# Altium integrated library TI Microcontroller 32-Bit ARM.IntLib: 163 symbols (part 4 of 10)
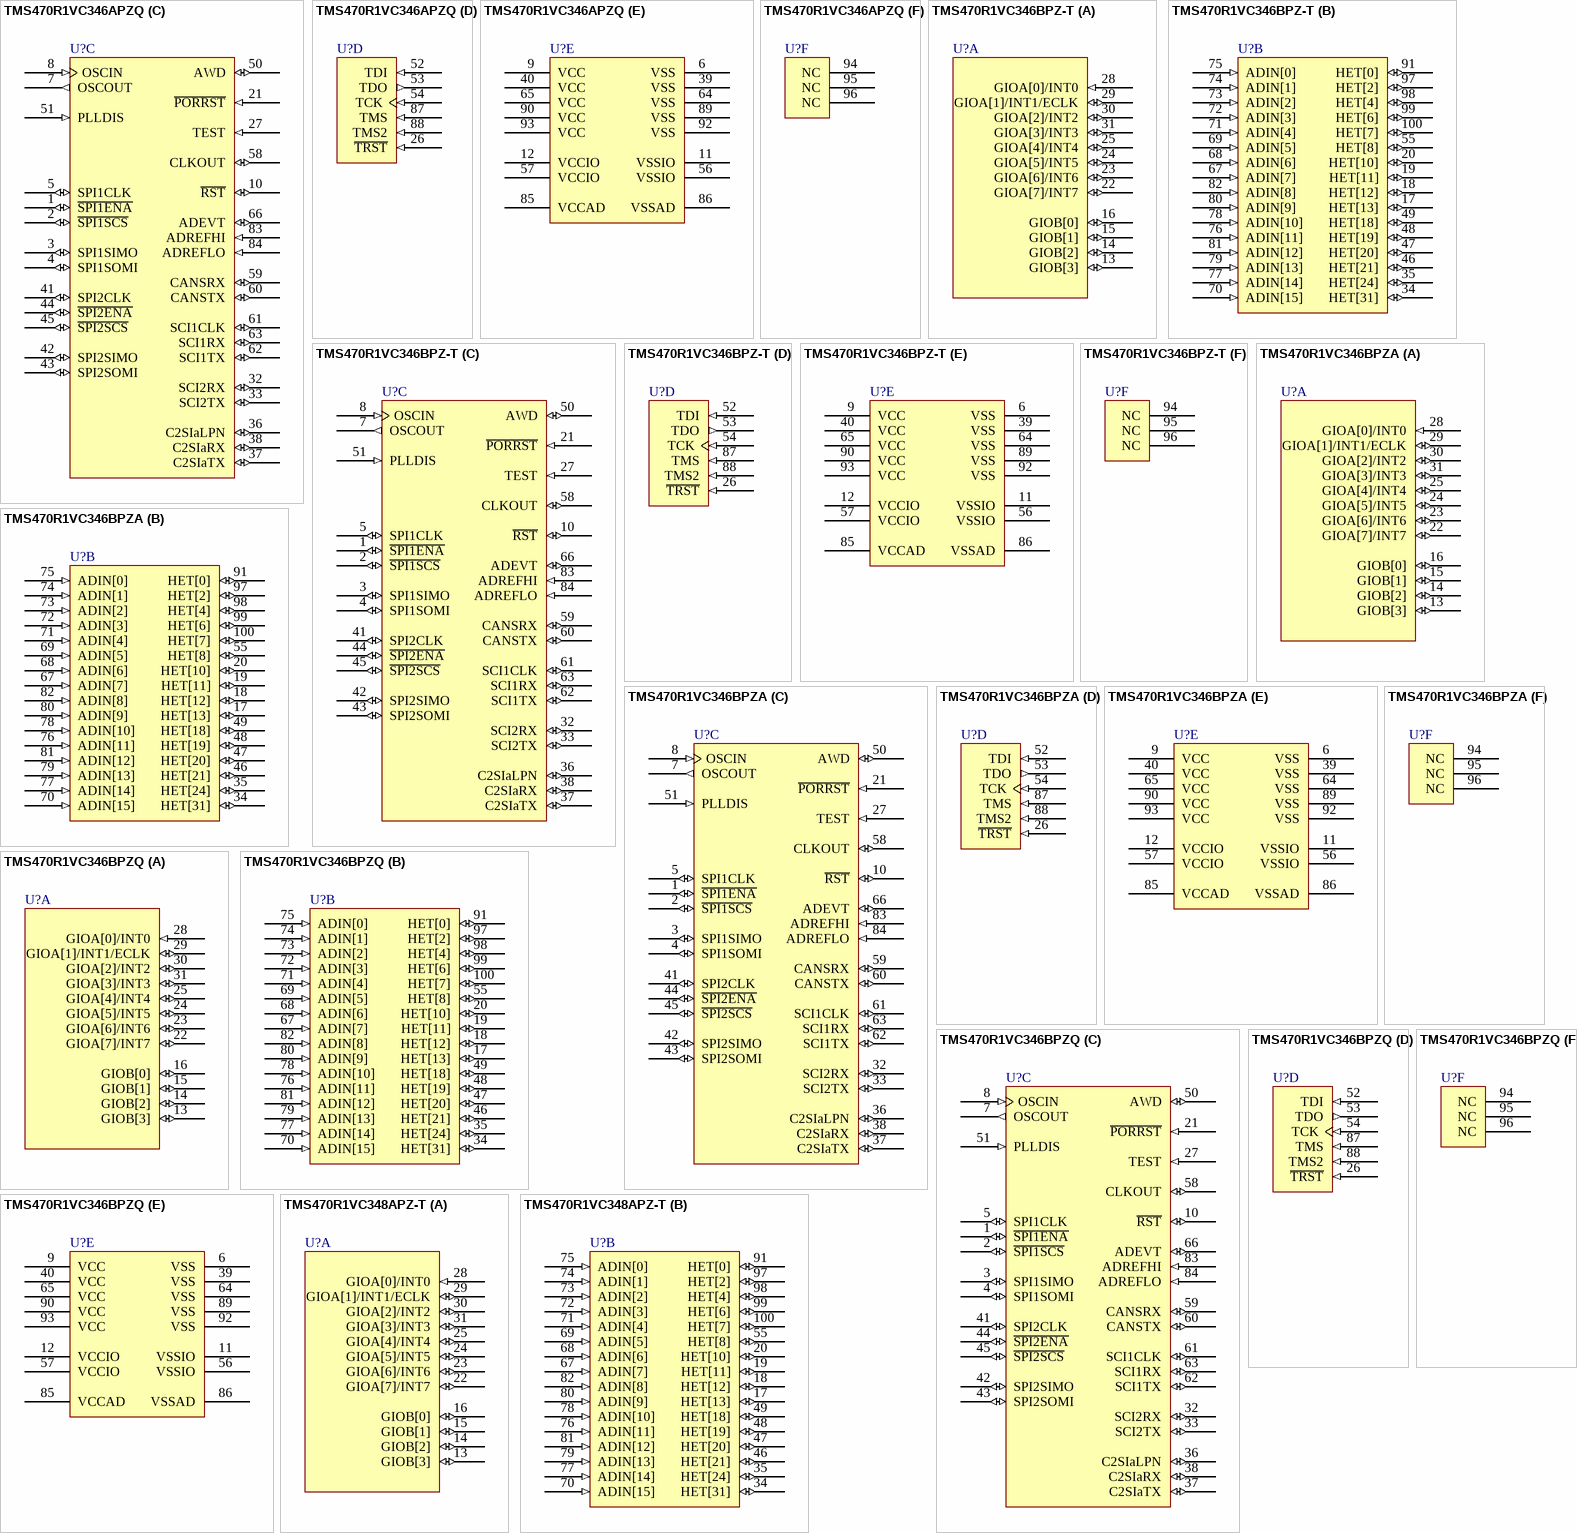
[diagram p55: symbols TMS470R1VC346APZQ to TMS470R1VC348APZ-T]

## TMS470R1VC346BPZ-T
designator U?
ARM7TDMI 16/32-Bit RISC Automotive MCU, 128KB ROM, 8KB RAM, 100-pin LQFP, -40ºC to 105ºC; Published: 30-Mar-2007; DatasheetVersion: Aug-2006; PackageVersion: Dec-1996; PackageReference: PZ100; Publisher: Altium Limited; PackageDescription: 100-Pin Thin Quad Flat Pack 0.5 mm Pitch; ComponentLink1Description: Manufacturer Link; ComponentLink1URL: http://www.ti.com/; ComponentLink2Description: Datasheet; ComponentLink2URL: http://focus.ti.com/lit/ds/symlink/tms470r1vc336a.pdf
footprint PZ100_N (Thin QFP, 100-Leads, Body 14x14mm, Pitch 0.5mm, IPC Medium Density)
footprint PZ100_L (Thin QFP, 100-Leads, Body 14x14mm, Pitch 0.5mm, IPC High Density)
footprint PZ100_M (Thin QFP, 100-Leads, Body 14x14mm, Pitch 0.5mm, IPC Low Density)
part A pins: 13 GIOB[3] (io), 14 GIOB[2] (io), 15 GIOB[1] (io), 16 GIOB[0] (io), 22 GIOA[7]/INT7 (io), 23 GIOA[6]/INT6 (io), 24 GIOA[5]/INT5 (io), 25 GIOA[4]/INT4 (io), 28 GIOA[0]/INT0 (in), 29 GIOA[1]/INT1/ECLK (io), 30 GIOA[2]/INT2 (io), 31 GIOA[3]/INT3 (io)
part B pins: 17 HET[13] (io), 18 HET[12] (io), 19 HET[11] (io), 20 HET[10] (io), 34 HET[31] (io), 35 HET[24] (io), 46 HET[21] (io), 47 HET[20] (io), 48 HET[19] (io), 49 HET[18] (io), 55 HET[8] (io), 67 ADIN[7] (in), 68 ADIN[6] (in), 69 ADIN[5] (in), 70 ADIN[15] (in), 71 ADIN[4] (in), 72 ADIN[3] (in), 73 ADIN[2] (in), 74 ADIN[1] (in), 75 ADIN[0] (in), 76 ADIN[11] (in), 77 ADIN[14] (in), 78 ADIN[10] (in), 79 ADIN[13] (in), 80 ADIN[9] (in), 81 ADIN[12] (in), 82 ADIN[8] (in), 91 HET[0] (io), 97 HET[2] (io), 98 HET[4] (io), 99 HET[6] (io), 100 HET[7] (io)
part C pins: 1 ~{SPI1ENA} (io), 2 ~{SPI1SCS} (io), 3 SPI1SIMO (io), 4 SPI1SOMI (io), 5 SPI1CLK (io), 7 OSCOUT (out), 8 OSCIN (in), 10 ~{RST} (io), 21 ~{PORRST} (in), 27 TEST (in), 32 SCI2RX (io), 33 SCI2TX (io), 36 C2SIaLPN (io), 37 C2SIaTX (io), 38 C2SIaRX (io), 41 SPI2CLK (io), 42 SPI2SIMO (io), 43 SPI2SOMI (io), 44 ~{SPI2ENA} (io), 45 ~{SPI2SCS} (io), 50 AWD (io), 51 PLLDIS (in), 58 CLKOUT (io), 59 CANSRX (io), 60 CANSTX (io), 61 SCI1CLK (io), 62 SCI1TX (io), 63 SCI1RX (io), 66 ADEVT (io), 83 ADREFHI (in), 84 ADREFLO (in)
part D pins: 26 ~{TRST} (in), 52 TDI (in), 53 TDO (out), 54 TCK (in), 87 TMS (in), 88 TMS2 (in)
part E pins: 6 VSS (power), 9 VCC (power), 11 VSSIO (power), 12 VCCIO (power), 39 VSS (power), 40 VCC (power), 56 VSSIO (power), 57 VCCIO (power), 64 VSS (power), 65 VCC (power), 85 VCCAD (power), 86 VSSAD (power), 89 VSS (power), 90 VCC (power), 92 VSS (power), 93 VCC (power)
part F pins: 94 NC, 95 NC, 96 NC

## TMS470R1VC346BPZA
designator U?
ARM7TDMI 16/32-Bit RISC Automotive MCU, 128KB ROM, 8KB RAM, 100-pin LQFP, -40ºC to 85ºC; Published: 30-Mar-2007; DatasheetVersion: Aug-2006; PackageVersion: Dec-1996; PackageReference: PZ100; Publisher: Altium Limited; PackageDescription: 100-Pin Thin Quad Flat Pack 0.5 mm Pitch; ComponentLink1Description: Manufacturer Link; ComponentLink1URL: http://www.ti.com/; ComponentLink2Description: Datasheet; ComponentLink2URL: http://focus.ti.com/lit/ds/symlink/tms470r1vc336a.pdf
footprint PZ100_N (Thin QFP, 100-Leads, Body 14x14mm, Pitch 0.5mm, IPC Medium Density)
footprint PZ100_L (Thin QFP, 100-Leads, Body 14x14mm, Pitch 0.5mm, IPC High Density)
footprint PZ100_M (Thin QFP, 100-Leads, Body 14x14mm, Pitch 0.5mm, IPC Low Density)
part A pins: 13 GIOB[3] (io), 14 GIOB[2] (io), 15 GIOB[1] (io), 16 GIOB[0] (io), 22 GIOA[7]/INT7 (io), 23 GIOA[6]/INT6 (io), 24 GIOA[5]/INT5 (io), 25 GIOA[4]/INT4 (io), 28 GIOA[0]/INT0 (in), 29 GIOA[1]/INT1/ECLK (io), 30 GIOA[2]/INT2 (io), 31 GIOA[3]/INT3 (io)
part B pins: 17 HET[13] (io), 18 HET[12] (io), 19 HET[11] (io), 20 HET[10] (io), 34 HET[31] (io), 35 HET[24] (io), 46 HET[21] (io), 47 HET[20] (io), 48 HET[19] (io), 49 HET[18] (io), 55 HET[8] (io), 67 ADIN[7] (in), 68 ADIN[6] (in), 69 ADIN[5] (in), 70 ADIN[15] (in), 71 ADIN[4] (in), 72 ADIN[3] (in), 73 ADIN[2] (in), 74 ADIN[1] (in), 75 ADIN[0] (in), 76 ADIN[11] (in), 77 ADIN[14] (in), 78 ADIN[10] (in), 79 ADIN[13] (in), 80 ADIN[9] (in), 81 ADIN[12] (in), 82 ADIN[8] (in), 91 HET[0] (io), 97 HET[2] (io), 98 HET[4] (io), 99 HET[6] (io), 100 HET[7] (io)
part C pins: 1 ~{SPI1ENA} (io), 2 ~{SPI1SCS} (io), 3 SPI1SIMO (io), 4 SPI1SOMI (io), 5 SPI1CLK (io), 7 OSCOUT (out), 8 OSCIN (in), 10 ~{RST} (io), 21 ~{PORRST} (in), 27 TEST (in), 32 SCI2RX (io), 33 SCI2TX (io), 36 C2SIaLPN (io), 37 C2SIaTX (io), 38 C2SIaRX (io), 41 SPI2CLK (io), 42 SPI2SIMO (io), 43 SPI2SOMI (io), 44 ~{SPI2ENA} (io), 45 ~{SPI2SCS} (io), 50 AWD (io), 51 PLLDIS (in), 58 CLKOUT (io), 59 CANSRX (io), 60 CANSTX (io), 61 SCI1CLK (io), 62 SCI1TX (io), 63 SCI1RX (io), 66 ADEVT (io), 83 ADREFHI (in), 84 ADREFLO (in)
part D pins: 26 ~{TRST} (in), 52 TDI (in), 53 TDO (out), 54 TCK (in), 87 TMS (in), 88 TMS2 (in)
part E pins: 6 VSS (power), 9 VCC (power), 11 VSSIO (power), 12 VCCIO (power), 39 VSS (power), 40 VCC (power), 56 VSSIO (power), 57 VCCIO (power), 64 VSS (power), 65 VCC (power), 85 VCCAD (power), 86 VSSAD (power), 89 VSS (power), 90 VCC (power), 92 VSS (power), 93 VCC (power)
part F pins: 94 NC, 95 NC, 96 NC

## TMS470R1VC346BPZQ
designator U?
ARM7TDMI 16/32-Bit RISC Automotive MCU, 128KB ROM, 8KB RAM, 100-pin LQFP, -40ºC to 125ºC; Published: 30-Mar-2007; DatasheetVersion: Aug-2006; PackageVersion: Dec-1996; PackageReference: PZ100; Publisher: Altium Limited; PackageDescription: 100-Pin Thin Quad Flat Pack 0.5 mm Pitch; ComponentLink1Description: Manufacturer Link; ComponentLink1URL: http://www.ti.com/; ComponentLink2Description: Datasheet; ComponentLink2URL: http://focus.ti.com/lit/ds/symlink/tms470r1vc336a.pdf
footprint PZ100_N (Thin QFP, 100-Leads, Body 14x14mm, Pitch 0.5mm, IPC Medium Density)
footprint PZ100_L (Thin QFP, 100-Leads, Body 14x14mm, Pitch 0.5mm, IPC High Density)
footprint PZ100_M (Thin QFP, 100-Leads, Body 14x14mm, Pitch 0.5mm, IPC Low Density)
part A pins: 13 GIOB[3] (io), 14 GIOB[2] (io), 15 GIOB[1] (io), 16 GIOB[0] (io), 22 GIOA[7]/INT7 (io), 23 GIOA[6]/INT6 (io), 24 GIOA[5]/INT5 (io), 25 GIOA[4]/INT4 (io), 28 GIOA[0]/INT0 (in), 29 GIOA[1]/INT1/ECLK (io), 30 GIOA[2]/INT2 (io), 31 GIOA[3]/INT3 (io)
part B pins: 17 HET[13] (io), 18 HET[12] (io), 19 HET[11] (io), 20 HET[10] (io), 34 HET[31] (io), 35 HET[24] (io), 46 HET[21] (io), 47 HET[20] (io), 48 HET[19] (io), 49 HET[18] (io), 55 HET[8] (io), 67 ADIN[7] (in), 68 ADIN[6] (in), 69 ADIN[5] (in), 70 ADIN[15] (in), 71 ADIN[4] (in), 72 ADIN[3] (in), 73 ADIN[2] (in), 74 ADIN[1] (in), 75 ADIN[0] (in), 76 ADIN[11] (in), 77 ADIN[14] (in), 78 ADIN[10] (in), 79 ADIN[13] (in), 80 ADIN[9] (in), 81 ADIN[12] (in), 82 ADIN[8] (in), 91 HET[0] (io), 97 HET[2] (io), 98 HET[4] (io), 99 HET[6] (io), 100 HET[7] (io)
part C pins: 1 ~{SPI1ENA} (io), 2 ~{SPI1SCS} (io), 3 SPI1SIMO (io), 4 SPI1SOMI (io), 5 SPI1CLK (io), 7 OSCOUT (out), 8 OSCIN (in), 10 ~{RST} (io), 21 ~{PORRST} (in), 27 TEST (in), 32 SCI2RX (io), 33 SCI2TX (io), 36 C2SIaLPN (io), 37 C2SIaTX (io), 38 C2SIaRX (io), 41 SPI2CLK (io), 42 SPI2SIMO (io), 43 SPI2SOMI (io), 44 ~{SPI2ENA} (io), 45 ~{SPI2SCS} (io), 50 AWD (io), 51 PLLDIS (in), 58 CLKOUT (io), 59 CANSRX (io), 60 CANSTX (io), 61 SCI1CLK (io), 62 SCI1TX (io), 63 SCI1RX (io), 66 ADEVT (io), 83 ADREFHI (in), 84 ADREFLO (in)
part D pins: 26 ~{TRST} (in), 52 TDI (in), 53 TDO (out), 54 TCK (in), 87 TMS (in), 88 TMS2 (in)
part E pins: 6 VSS (power), 9 VCC (power), 11 VSSIO (power), 12 VCCIO (power), 39 VSS (power), 40 VCC (power), 56 VSSIO (power), 57 VCCIO (power), 64 VSS (power), 65 VCC (power), 85 VCCAD (power), 86 VSSAD (power), 89 VSS (power), 90 VCC (power), 92 VSS (power), 93 VCC (power)
part F pins: 94 NC, 95 NC, 96 NC

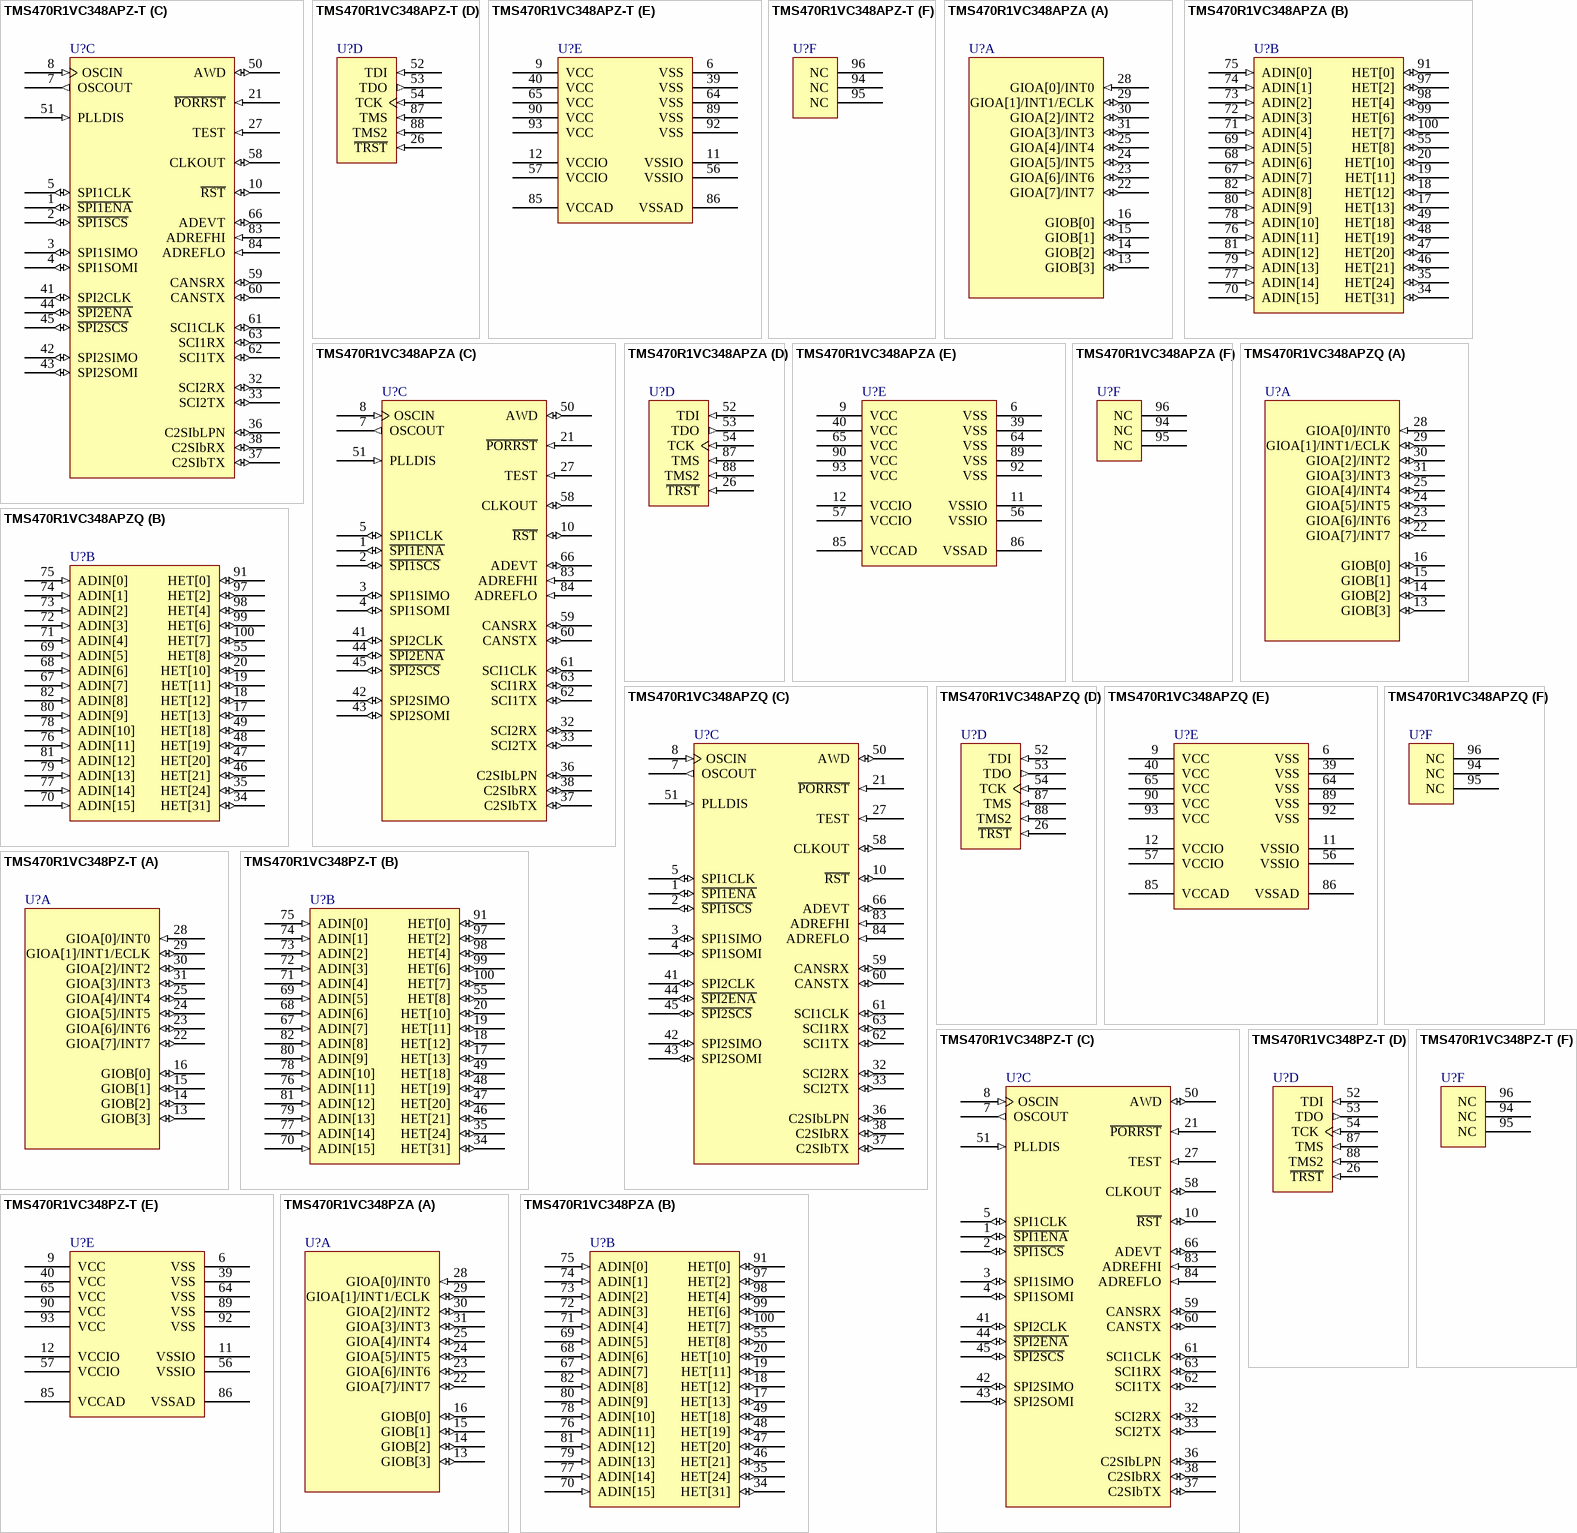
[diagram p17: symbols TMS470R1VC348APZ-T to TMS470R1VC348PZA]

## TMS470R1VC348APZ-T
designator U?
ARM7TDMI 16/32-Bit RISC Automotive MCU, 256KB ROM, 12KB RAM, 100-pin LQFP, -40ºC to 105ºC; Published: 30-Mar-2007; DatasheetVersion: Jan-2006; PackageVersion: Dec-1996; PackageReference: PZ100; Publisher: Altium Limited; PackageDescription: 100-Pin Thin Quad Flat Pack 0.5 mm Pitch; ComponentLink1Description: Manufacturer Link; ComponentLink1URL: http://www.ti.com/; ComponentLink2Description: Datasheet; ComponentLink2URL: http://focus.ti.com/lit/ds/symlink/tms470r1vc338.pdf
footprint PZ100_N (Thin QFP, 100-Leads, Body 14x14mm, Pitch 0.5mm, IPC Medium Density)
footprint PZ100_L (Thin QFP, 100-Leads, Body 14x14mm, Pitch 0.5mm, IPC High Density)
footprint PZ100_M (Thin QFP, 100-Leads, Body 14x14mm, Pitch 0.5mm, IPC Low Density)
part A pins: 13 GIOB[3] (io), 14 GIOB[2] (io), 15 GIOB[1] (io), 16 GIOB[0] (io), 22 GIOA[7]/INT7 (io), 23 GIOA[6]/INT6 (io), 24 GIOA[5]/INT5 (io), 25 GIOA[4]/INT4 (io), 28 GIOA[0]/INT0 (in), 29 GIOA[1]/INT1/ECLK (io), 30 GIOA[2]/INT2 (io), 31 GIOA[3]/INT3 (io)
part B pins: 17 HET[13] (io), 18 HET[12] (io), 19 HET[11] (io), 20 HET[10] (io), 34 HET[31] (io), 35 HET[24] (io), 46 HET[21] (io), 47 HET[20] (io), 48 HET[19] (io), 49 HET[18] (io), 55 HET[8] (io), 67 ADIN[7] (in), 68 ADIN[6] (in), 69 ADIN[5] (in), 70 ADIN[15] (in), 71 ADIN[4] (in), 72 ADIN[3] (in), 73 ADIN[2] (in), 74 ADIN[1] (in), 75 ADIN[0] (in), 76 ADIN[11] (in), 77 ADIN[14] (in), 78 ADIN[10] (in), 79 ADIN[13] (in), 80 ADIN[9] (in), 81 ADIN[12] (in), 82 ADIN[8] (in), 91 HET[0] (io), 97 HET[2] (io), 98 HET[4] (io), 99 HET[6] (io), 100 HET[7] (io)
part C pins: 1 ~{SPI1ENA} (io), 2 ~{SPI1SCS} (io), 3 SPI1SIMO (io), 4 SPI1SOMI (io), 5 SPI1CLK (io), 7 OSCOUT (out), 8 OSCIN (in), 10 ~{RST} (io), 21 ~{PORRST} (in), 27 TEST (in), 32 SCI2RX (io), 33 SCI2TX (io), 36 C2SIbLPN (io), 37 C2SIbTX (io), 38 C2SIbRX (io), 41 SPI2CLK (io), 42 SPI2SIMO (io), 43 SPI2SOMI (io), 44 ~{SPI2ENA} (io), 45 ~{SPI2SCS} (io), 50 AWD (io), 51 PLLDIS (in), 58 CLKOUT (io), 59 CANSRX (io), 60 CANSTX (io), 61 SCI1CLK (io), 62 SCI1TX (io), 63 SCI1RX (io), 66 ADEVT (io), 83 ADREFHI (in), 84 ADREFLO (in)
part D pins: 26 ~{TRST} (in), 52 TDI (in), 53 TDO (out), 54 TCK (in), 87 TMS (in), 88 TMS2 (in)
part E pins: 6 VSS (power), 9 VCC (power), 11 VSSIO (power), 12 VCCIO (power), 39 VSS (power), 40 VCC (power), 56 VSSIO (power), 57 VCCIO (power), 64 VSS (power), 65 VCC (power), 85 VCCAD (power), 86 VSSAD (power), 89 VSS (power), 90 VCC (power), 92 VSS (power), 93 VCC (power)
part F pins: 94 NC, 95 NC, 96 NC

## TMS470R1VC348APZA
designator U?
ARM7TDMI 16/32-Bit RISC Automotive MCU, 256KB ROM, 12KB RAM, 100-pin LQFP, -40ºC to 85ºC; Published: 30-Mar-2007; DatasheetVersion: Jan-2006; PackageVersion: Dec-1996; PackageReference: PZ100; Publisher: Altium Limited; PackageDescription: 100-Pin Thin Quad Flat Pack 0.5 mm Pitch; ComponentLink1Description: Manufacturer Link; ComponentLink1URL: http://www.ti.com/; ComponentLink2Description: Datasheet; ComponentLink2URL: http://focus.ti.com/lit/ds/symlink/tms470r1vc338.pdf
footprint PZ100_N (Thin QFP, 100-Leads, Body 14x14mm, Pitch 0.5mm, IPC Medium Density)
footprint PZ100_L (Thin QFP, 100-Leads, Body 14x14mm, Pitch 0.5mm, IPC High Density)
footprint PZ100_M (Thin QFP, 100-Leads, Body 14x14mm, Pitch 0.5mm, IPC Low Density)
part A pins: 13 GIOB[3] (io), 14 GIOB[2] (io), 15 GIOB[1] (io), 16 GIOB[0] (io), 22 GIOA[7]/INT7 (io), 23 GIOA[6]/INT6 (io), 24 GIOA[5]/INT5 (io), 25 GIOA[4]/INT4 (io), 28 GIOA[0]/INT0 (in), 29 GIOA[1]/INT1/ECLK (io), 30 GIOA[2]/INT2 (io), 31 GIOA[3]/INT3 (io)
part B pins: 17 HET[13] (io), 18 HET[12] (io), 19 HET[11] (io), 20 HET[10] (io), 34 HET[31] (io), 35 HET[24] (io), 46 HET[21] (io), 47 HET[20] (io), 48 HET[19] (io), 49 HET[18] (io), 55 HET[8] (io), 67 ADIN[7] (in), 68 ADIN[6] (in), 69 ADIN[5] (in), 70 ADIN[15] (in), 71 ADIN[4] (in), 72 ADIN[3] (in), 73 ADIN[2] (in), 74 ADIN[1] (in), 75 ADIN[0] (in), 76 ADIN[11] (in), 77 ADIN[14] (in), 78 ADIN[10] (in), 79 ADIN[13] (in), 80 ADIN[9] (in), 81 ADIN[12] (in), 82 ADIN[8] (in), 91 HET[0] (io), 97 HET[2] (io), 98 HET[4] (io), 99 HET[6] (io), 100 HET[7] (io)
part C pins: 1 ~{SPI1ENA} (io), 2 ~{SPI1SCS} (io), 3 SPI1SIMO (io), 4 SPI1SOMI (io), 5 SPI1CLK (io), 7 OSCOUT (out), 8 OSCIN (in), 10 ~{RST} (io), 21 ~{PORRST} (in), 27 TEST (in), 32 SCI2RX (io), 33 SCI2TX (io), 36 C2SIbLPN (io), 37 C2SIbTX (io), 38 C2SIbRX (io), 41 SPI2CLK (io), 42 SPI2SIMO (io), 43 SPI2SOMI (io), 44 ~{SPI2ENA} (io), 45 ~{SPI2SCS} (io), 50 AWD (io), 51 PLLDIS (in), 58 CLKOUT (io), 59 CANSRX (io), 60 CANSTX (io), 61 SCI1CLK (io), 62 SCI1TX (io), 63 SCI1RX (io), 66 ADEVT (io), 83 ADREFHI (in), 84 ADREFLO (in)
part D pins: 26 ~{TRST} (in), 52 TDI (in), 53 TDO (out), 54 TCK (in), 87 TMS (in), 88 TMS2 (in)
part E pins: 6 VSS (power), 9 VCC (power), 11 VSSIO (power), 12 VCCIO (power), 39 VSS (power), 40 VCC (power), 56 VSSIO (power), 57 VCCIO (power), 64 VSS (power), 65 VCC (power), 85 VCCAD (power), 86 VSSAD (power), 89 VSS (power), 90 VCC (power), 92 VSS (power), 93 VCC (power)
part F pins: 94 NC, 95 NC, 96 NC

## TMS470R1VC348APZQ
designator U?
ARM7TDMI 16/32-Bit RISC Automotive MCU, 256KB ROM, 12KB RAM, 100-pin LQFP, -40ºC to 125ºC; Published: 30-Mar-2007; DatasheetVersion: Jan-2006; PackageVersion: Dec-1996; PackageReference: PZ100; Publisher: Altium Limited; PackageDescription: 100-Pin Thin Quad Flat Pack 0.5 mm Pitch; ComponentLink1Description: Manufacturer Link; ComponentLink1URL: http://www.ti.com/; ComponentLink2Description: Datasheet; ComponentLink2URL: http://focus.ti.com/lit/ds/symlink/tms470r1vc338.pdf
footprint PZ100_N (Thin QFP, 100-Leads, Body 14x14mm, Pitch 0.5mm, IPC Medium Density)
footprint PZ100_L (Thin QFP, 100-Leads, Body 14x14mm, Pitch 0.5mm, IPC High Density)
footprint PZ100_M (Thin QFP, 100-Leads, Body 14x14mm, Pitch 0.5mm, IPC Low Density)
part A pins: 13 GIOB[3] (io), 14 GIOB[2] (io), 15 GIOB[1] (io), 16 GIOB[0] (io), 22 GIOA[7]/INT7 (io), 23 GIOA[6]/INT6 (io), 24 GIOA[5]/INT5 (io), 25 GIOA[4]/INT4 (io), 28 GIOA[0]/INT0 (in), 29 GIOA[1]/INT1/ECLK (io), 30 GIOA[2]/INT2 (io), 31 GIOA[3]/INT3 (io)
part B pins: 17 HET[13] (io), 18 HET[12] (io), 19 HET[11] (io), 20 HET[10] (io), 34 HET[31] (io), 35 HET[24] (io), 46 HET[21] (io), 47 HET[20] (io), 48 HET[19] (io), 49 HET[18] (io), 55 HET[8] (io), 67 ADIN[7] (in), 68 ADIN[6] (in), 69 ADIN[5] (in), 70 ADIN[15] (in), 71 ADIN[4] (in), 72 ADIN[3] (in), 73 ADIN[2] (in), 74 ADIN[1] (in), 75 ADIN[0] (in), 76 ADIN[11] (in), 77 ADIN[14] (in), 78 ADIN[10] (in), 79 ADIN[13] (in), 80 ADIN[9] (in), 81 ADIN[12] (in), 82 ADIN[8] (in), 91 HET[0] (io), 97 HET[2] (io), 98 HET[4] (io), 99 HET[6] (io), 100 HET[7] (io)
part C pins: 1 ~{SPI1ENA} (io), 2 ~{SPI1SCS} (io), 3 SPI1SIMO (io), 4 SPI1SOMI (io), 5 SPI1CLK (io), 7 OSCOUT (out), 8 OSCIN (in), 10 ~{RST} (io), 21 ~{PORRST} (in), 27 TEST (in), 32 SCI2RX (io), 33 SCI2TX (io), 36 C2SIbLPN (io), 37 C2SIbTX (io), 38 C2SIbRX (io), 41 SPI2CLK (io), 42 SPI2SIMO (io), 43 SPI2SOMI (io), 44 ~{SPI2ENA} (io), 45 ~{SPI2SCS} (io), 50 AWD (io), 51 PLLDIS (in), 58 CLKOUT (io), 59 CANSRX (io), 60 CANSTX (io), 61 SCI1CLK (io), 62 SCI1TX (io), 63 SCI1RX (io), 66 ADEVT (io), 83 ADREFHI (in), 84 ADREFLO (in)
part D pins: 26 ~{TRST} (in), 52 TDI (in), 53 TDO (out), 54 TCK (in), 87 TMS (in), 88 TMS2 (in)
part E pins: 6 VSS (power), 9 VCC (power), 11 VSSIO (power), 12 VCCIO (power), 39 VSS (power), 40 VCC (power), 56 VSSIO (power), 57 VCCIO (power), 64 VSS (power), 65 VCC (power), 85 VCCAD (power), 86 VSSAD (power), 89 VSS (power), 90 VCC (power), 92 VSS (power), 93 VCC (power)
part F pins: 94 NC, 95 NC, 96 NC

## TMS470R1VC348PZ-T
designator U?
ARM7TDMI 16/32-Bit RISC Automotive MCU, 256KB ROM, 12KB RAM, 100-pin LQFP, -40ºC to 105ºC; Published: 30-Mar-2007; DatasheetVersion: Jan-2006; PackageVersion: Dec-1996; PackageReference: PZ100; Publisher: Altium Limited; PackageDescription: 100-Pin Thin Quad Flat Pack 0.5 mm Pitch; ComponentLink1Description: Manufacturer Link; ComponentLink1URL: http://www.ti.com/; ComponentLink2Description: Datasheet; ComponentLink2URL: http://focus.ti.com/lit/ds/symlink/tms470r1vc338.pdf
footprint PZ100_N (Thin QFP, 100-Leads, Body 14x14mm, Pitch 0.5mm, IPC Medium Density)
footprint PZ100_L (Thin QFP, 100-Leads, Body 14x14mm, Pitch 0.5mm, IPC High Density)
footprint PZ100_M (Thin QFP, 100-Leads, Body 14x14mm, Pitch 0.5mm, IPC Low Density)
part A pins: 13 GIOB[3] (io), 14 GIOB[2] (io), 15 GIOB[1] (io), 16 GIOB[0] (io), 22 GIOA[7]/INT7 (io), 23 GIOA[6]/INT6 (io), 24 GIOA[5]/INT5 (io), 25 GIOA[4]/INT4 (io), 28 GIOA[0]/INT0 (in), 29 GIOA[1]/INT1/ECLK (io), 30 GIOA[2]/INT2 (io), 31 GIOA[3]/INT3 (io)
part B pins: 17 HET[13] (io), 18 HET[12] (io), 19 HET[11] (io), 20 HET[10] (io), 34 HET[31] (io), 35 HET[24] (io), 46 HET[21] (io), 47 HET[20] (io), 48 HET[19] (io), 49 HET[18] (io), 55 HET[8] (io), 67 ADIN[7] (in), 68 ADIN[6] (in), 69 ADIN[5] (in), 70 ADIN[15] (in), 71 ADIN[4] (in), 72 ADIN[3] (in), 73 ADIN[2] (in), 74 ADIN[1] (in), 75 ADIN[0] (in), 76 ADIN[11] (in), 77 ADIN[14] (in), 78 ADIN[10] (in), 79 ADIN[13] (in), 80 ADIN[9] (in), 81 ADIN[12] (in), 82 ADIN[8] (in), 91 HET[0] (io), 97 HET[2] (io), 98 HET[4] (io), 99 HET[6] (io), 100 HET[7] (io)
part C pins: 1 ~{SPI1ENA} (io), 2 ~{SPI1SCS} (io), 3 SPI1SIMO (io), 4 SPI1SOMI (io), 5 SPI1CLK (io), 7 OSCOUT (out), 8 OSCIN (in), 10 ~{RST} (io), 21 ~{PORRST} (in), 27 TEST (in), 32 SCI2RX (io), 33 SCI2TX (io), 36 C2SIbLPN (io), 37 C2SIbTX (io), 38 C2SIbRX (io), 41 SPI2CLK (io), 42 SPI2SIMO (io), 43 SPI2SOMI (io), 44 ~{SPI2ENA} (io), 45 ~{SPI2SCS} (io), 50 AWD (io), 51 PLLDIS (in), 58 CLKOUT (io), 59 CANSRX (io), 60 CANSTX (io), 61 SCI1CLK (io), 62 SCI1TX (io), 63 SCI1RX (io), 66 ADEVT (io), 83 ADREFHI (in), 84 ADREFLO (in)
part D pins: 26 ~{TRST} (in), 52 TDI (in), 53 TDO (out), 54 TCK (in), 87 TMS (in), 88 TMS2 (in)
part E pins: 6 VSS (power), 9 VCC (power), 11 VSSIO (power), 12 VCCIO (power), 39 VSS (power), 40 VCC (power), 56 VSSIO (power), 57 VCCIO (power), 64 VSS (power), 65 VCC (power), 85 VCCAD (power), 86 VSSAD (power), 89 VSS (power), 90 VCC (power), 92 VSS (power), 93 VCC (power)
part F pins: 94 NC, 95 NC, 96 NC

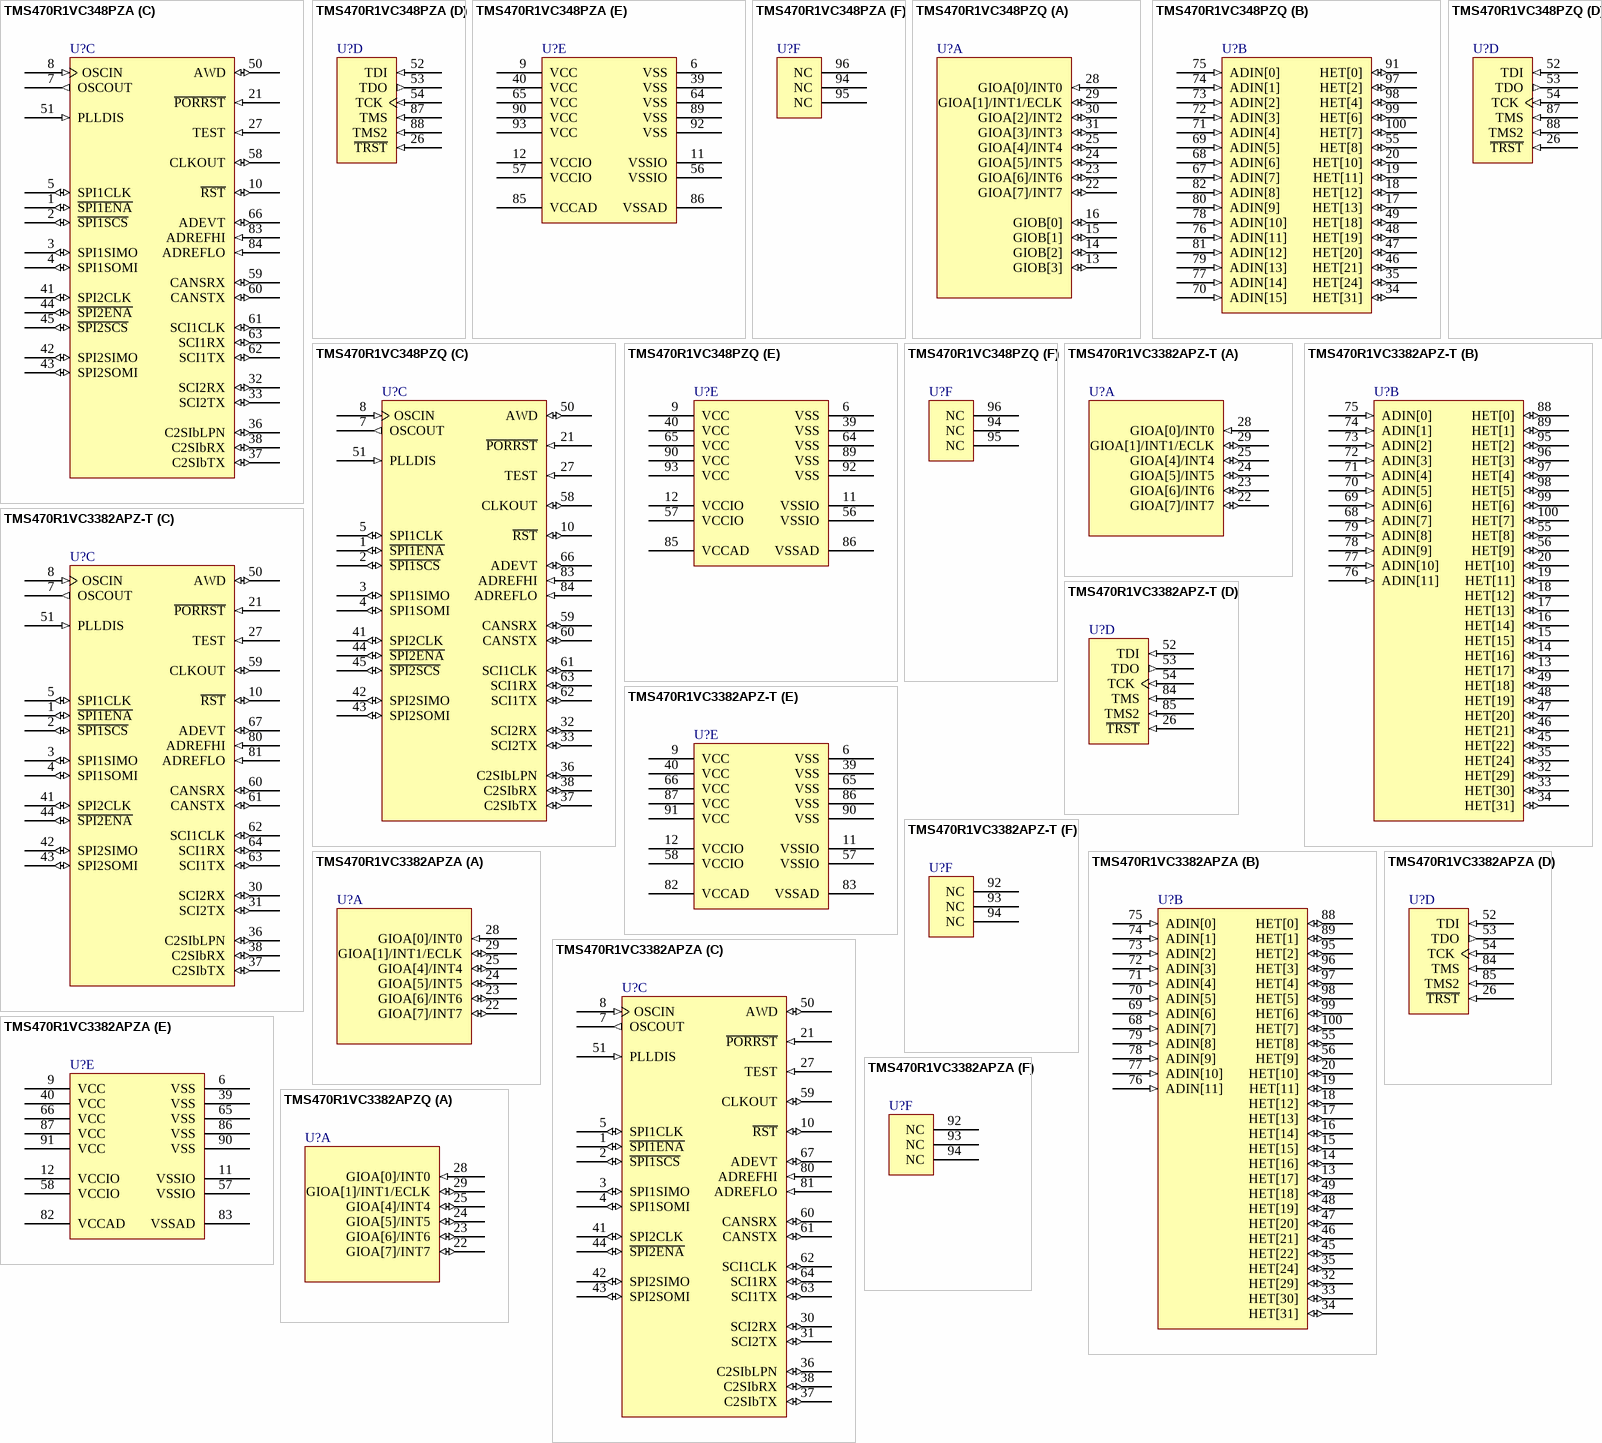
[diagram p18: symbols TMS470R1VC348PZA to TMS470R1VC3382APZQ]

## TMS470R1VC348PZA
designator U?
ARM7TDMI 16/32-Bit RISC Automotive MCU, 256KB ROM, 12KB RAM, 100-pin LQFP, -40ºC to 85ºC; Published: 30-Mar-2007; DatasheetVersion: Jan-2006; PackageVersion: Dec-1996; PackageReference: PZ100; Publisher: Altium Limited; PackageDescription: 100-Pin Thin Quad Flat Pack 0.5 mm Pitch; ComponentLink1Description: Manufacturer Link; ComponentLink1URL: http://www.ti.com/; ComponentLink2Description: Datasheet; ComponentLink2URL: http://focus.ti.com/lit/ds/symlink/tms470r1vc338.pdf
footprint PZ100_N (Thin QFP, 100-Leads, Body 14x14mm, Pitch 0.5mm, IPC Medium Density)
footprint PZ100_L (Thin QFP, 100-Leads, Body 14x14mm, Pitch 0.5mm, IPC High Density)
footprint PZ100_M (Thin QFP, 100-Leads, Body 14x14mm, Pitch 0.5mm, IPC Low Density)
part A pins: 13 GIOB[3] (io), 14 GIOB[2] (io), 15 GIOB[1] (io), 16 GIOB[0] (io), 22 GIOA[7]/INT7 (io), 23 GIOA[6]/INT6 (io), 24 GIOA[5]/INT5 (io), 25 GIOA[4]/INT4 (io), 28 GIOA[0]/INT0 (in), 29 GIOA[1]/INT1/ECLK (io), 30 GIOA[2]/INT2 (io), 31 GIOA[3]/INT3 (io)
part B pins: 17 HET[13] (io), 18 HET[12] (io), 19 HET[11] (io), 20 HET[10] (io), 34 HET[31] (io), 35 HET[24] (io), 46 HET[21] (io), 47 HET[20] (io), 48 HET[19] (io), 49 HET[18] (io), 55 HET[8] (io), 67 ADIN[7] (in), 68 ADIN[6] (in), 69 ADIN[5] (in), 70 ADIN[15] (in), 71 ADIN[4] (in), 72 ADIN[3] (in), 73 ADIN[2] (in), 74 ADIN[1] (in), 75 ADIN[0] (in), 76 ADIN[11] (in), 77 ADIN[14] (in), 78 ADIN[10] (in), 79 ADIN[13] (in), 80 ADIN[9] (in), 81 ADIN[12] (in), 82 ADIN[8] (in), 91 HET[0] (io), 97 HET[2] (io), 98 HET[4] (io), 99 HET[6] (io), 100 HET[7] (io)
part C pins: 1 ~{SPI1ENA} (io), 2 ~{SPI1SCS} (io), 3 SPI1SIMO (io), 4 SPI1SOMI (io), 5 SPI1CLK (io), 7 OSCOUT (out), 8 OSCIN (in), 10 ~{RST} (io), 21 ~{PORRST} (in), 27 TEST (in), 32 SCI2RX (io), 33 SCI2TX (io), 36 C2SIbLPN (io), 37 C2SIbTX (io), 38 C2SIbRX (io), 41 SPI2CLK (io), 42 SPI2SIMO (io), 43 SPI2SOMI (io), 44 ~{SPI2ENA} (io), 45 ~{SPI2SCS} (io), 50 AWD (io), 51 PLLDIS (in), 58 CLKOUT (io), 59 CANSRX (io), 60 CANSTX (io), 61 SCI1CLK (io), 62 SCI1TX (io), 63 SCI1RX (io), 66 ADEVT (io), 83 ADREFHI (in), 84 ADREFLO (in)
part D pins: 26 ~{TRST} (in), 52 TDI (in), 53 TDO (out), 54 TCK (in), 87 TMS (in), 88 TMS2 (in)
part E pins: 6 VSS (power), 9 VCC (power), 11 VSSIO (power), 12 VCCIO (power), 39 VSS (power), 40 VCC (power), 56 VSSIO (power), 57 VCCIO (power), 64 VSS (power), 65 VCC (power), 85 VCCAD (power), 86 VSSAD (power), 89 VSS (power), 90 VCC (power), 92 VSS (power), 93 VCC (power)
part F pins: 94 NC, 95 NC, 96 NC

## TMS470R1VC348PZQ
designator U?
ARM7TDMI 16/32-Bit RISC Automotive MCU, 256KB ROM, 12KB RAM, 100-pin LQFP, -40ºC to 125ºC; Published: 30-Mar-2007; DatasheetVersion: Jan-2006; PackageVersion: Dec-1996; PackageReference: PZ100; Publisher: Altium Limited; PackageDescription: 100-Pin Thin Quad Flat Pack 0.5 mm Pitch; ComponentLink1Description: Manufacturer Link; ComponentLink1URL: http://www.ti.com/; ComponentLink2Description: Datasheet; ComponentLink2URL: http://focus.ti.com/lit/ds/symlink/tms470r1vc338.pdf
footprint PZ100_N (Thin QFP, 100-Leads, Body 14x14mm, Pitch 0.5mm, IPC Medium Density)
footprint PZ100_L (Thin QFP, 100-Leads, Body 14x14mm, Pitch 0.5mm, IPC High Density)
footprint PZ100_M (Thin QFP, 100-Leads, Body 14x14mm, Pitch 0.5mm, IPC Low Density)
part A pins: 13 GIOB[3] (io), 14 GIOB[2] (io), 15 GIOB[1] (io), 16 GIOB[0] (io), 22 GIOA[7]/INT7 (io), 23 GIOA[6]/INT6 (io), 24 GIOA[5]/INT5 (io), 25 GIOA[4]/INT4 (io), 28 GIOA[0]/INT0 (in), 29 GIOA[1]/INT1/ECLK (io), 30 GIOA[2]/INT2 (io), 31 GIOA[3]/INT3 (io)
part B pins: 17 HET[13] (io), 18 HET[12] (io), 19 HET[11] (io), 20 HET[10] (io), 34 HET[31] (io), 35 HET[24] (io), 46 HET[21] (io), 47 HET[20] (io), 48 HET[19] (io), 49 HET[18] (io), 55 HET[8] (io), 67 ADIN[7] (in), 68 ADIN[6] (in), 69 ADIN[5] (in), 70 ADIN[15] (in), 71 ADIN[4] (in), 72 ADIN[3] (in), 73 ADIN[2] (in), 74 ADIN[1] (in), 75 ADIN[0] (in), 76 ADIN[11] (in), 77 ADIN[14] (in), 78 ADIN[10] (in), 79 ADIN[13] (in), 80 ADIN[9] (in), 81 ADIN[12] (in), 82 ADIN[8] (in), 91 HET[0] (io), 97 HET[2] (io), 98 HET[4] (io), 99 HET[6] (io), 100 HET[7] (io)
part C pins: 1 ~{SPI1ENA} (io), 2 ~{SPI1SCS} (io), 3 SPI1SIMO (io), 4 SPI1SOMI (io), 5 SPI1CLK (io), 7 OSCOUT (out), 8 OSCIN (in), 10 ~{RST} (io), 21 ~{PORRST} (in), 27 TEST (in), 32 SCI2RX (io), 33 SCI2TX (io), 36 C2SIbLPN (io), 37 C2SIbTX (io), 38 C2SIbRX (io), 41 SPI2CLK (io), 42 SPI2SIMO (io), 43 SPI2SOMI (io), 44 ~{SPI2ENA} (io), 45 ~{SPI2SCS} (io), 50 AWD (io), 51 PLLDIS (in), 58 CLKOUT (io), 59 CANSRX (io), 60 CANSTX (io), 61 SCI1CLK (io), 62 SCI1TX (io), 63 SCI1RX (io), 66 ADEVT (io), 83 ADREFHI (in), 84 ADREFLO (in)
part D pins: 26 ~{TRST} (in), 52 TDI (in), 53 TDO (out), 54 TCK (in), 87 TMS (in), 88 TMS2 (in)
part E pins: 6 VSS (power), 9 VCC (power), 11 VSSIO (power), 12 VCCIO (power), 39 VSS (power), 40 VCC (power), 56 VSSIO (power), 57 VCCIO (power), 64 VSS (power), 65 VCC (power), 85 VCCAD (power), 86 VSSAD (power), 89 VSS (power), 90 VCC (power), 92 VSS (power), 93 VCC (power)
part F pins: 94 NC, 95 NC, 96 NC

## TMS470R1VC3382APZ-T
designator U?
ARM7TDMI 16/32-Bit RISC Automotive MCU, 256KB ROM, 12KB RAM, 100-pin LQFP, -40ºC to 105ºC; Note: The HET[28] signal is only connected to the pad, not to a package pin.; Published: 30-Mar-2007; DatasheetVersion: Jan-2006; PackageVersion: Dec-1996; PackageReference: PZ100; Publisher: Altium Limited; PackageDescription: 100-Pin Thin Quad Flat Pack 0.5 mm Pitch; ComponentLink1Description: Manufacturer Link; ComponentLink1URL: http://www.ti.com/; ComponentLink2Description: Datasheet; ComponentLink2URL: http://focus.ti.com/lit/ds/symlink/tms470r1vc338.pdf
footprint PZ100_N (Thin QFP, 100-Leads, Body 14x14mm, Pitch 0.5mm, IPC Medium Density)
footprint PZ100_L (Thin QFP, 100-Leads, Body 14x14mm, Pitch 0.5mm, IPC High Density)
footprint PZ100_M (Thin QFP, 100-Leads, Body 14x14mm, Pitch 0.5mm, IPC Low Density)
part A pins: 22 GIOA[7]/INT7 (io), 23 GIOA[6]/INT6 (io), 24 GIOA[5]/INT5 (io), 25 GIOA[4]/INT4 (io), 28 GIOA[0]/INT0 (in), 29 GIOA[1]/INT1/ECLK (io)
part B pins: 13 HET[17] (io), 14 HET[16] (io), 15 HET[15] (io), 16 HET[14] (io), 17 HET[13] (io), 18 HET[12] (io), 19 HET[11] (io), 20 HET[10] (io), 32 HET[29] (io), 33 HET[30] (io), 34 HET[31] (io), 35 HET[24] (io), 45 HET[22] (io), 46 HET[21] (io), 47 HET[20] (io), 48 HET[19] (io), 49 HET[18] (io), 55 HET[8] (io), 56 HET[9] (io), 68 ADIN[7] (in), 69 ADIN[6] (in), 70 ADIN[5] (in), 71 ADIN[4] (in), 72 ADIN[3] (in), 73 ADIN[2] (in), 74 ADIN[1] (in), 75 ADIN[0] (in), 76 ADIN[11] (in), 77 ADIN[10] (in), 78 ADIN[9] (in), 79 ADIN[8] (in), 88 HET[0] (io), 89 HET[1] (io), 95 HET[2] (io), 96 HET[3] (io), 97 HET[4] (io), 98 HET[5] (io), 99 HET[6] (io), 100 HET[7] (io)
part C pins: 1 ~{SPI1ENA} (io), 2 ~{SPI1SCS} (io), 3 SPI1SIMO (io), 4 SPI1SOMI (io), 5 SPI1CLK (io), 7 OSCOUT (out), 8 OSCIN (in), 10 ~{RST} (io), 21 ~{PORRST} (in), 27 TEST (in), 30 SCI2RX (io), 31 SCI2TX (io), 36 C2SIbLPN (io), 37 C2SIbTX (io), 38 C2SIbRX (io), 41 SPI2CLK (io), 42 SPI2SIMO (io), 43 SPI2SOMI (io), 44 ~{SPI2ENA} (io), 50 AWD (io), 51 PLLDIS (in), 59 CLKOUT (io), 60 CANSRX (io), 61 CANSTX (io), 62 SCI1CLK (io), 63 SCI1TX (io), 64 SCI1RX (io), 67 ADEVT (io), 80 ADREFHI (in), 81 ADREFLO (in)
part D pins: 26 ~{TRST} (in), 52 TDI (in), 53 TDO (out), 54 TCK (in), 84 TMS (in), 85 TMS2 (in)
part E pins: 6 VSS (power), 9 VCC (power), 11 VSSIO (power), 12 VCCIO (power), 39 VSS (power), 40 VCC (power), 57 VSSIO (power), 58 VCCIO (power), 65 VSS (power), 66 VCC (power), 82 VCCAD (power), 83 VSSAD (power), 86 VSS (power), 87 VCC (power), 90 VSS (power), 91 VCC (power)
part F pins: 92 NC, 93 NC, 94 NC

## TMS470R1VC3382APZA
designator U?
ARM7TDMI 16/32-Bit RISC Automotive MCU, 256KB ROM, 12KB RAM, 100-pin LQFP, -40ºC to 85ºC; Note: The HET[28] signal is only connected to the pad, not to a package pin.; Published: 30-Mar-2007; DatasheetVersion: Jan-2006; PackageVersion: Dec-1996; PackageReference: PZ100; Publisher: Altium Limited; PackageDescription: 100-Pin Thin Quad Flat Pack 0.5 mm Pitch; ComponentLink1Description: Manufacturer Link; ComponentLink1URL: http://www.ti.com/; ComponentLink2Description: Datasheet; ComponentLink2URL: http://focus.ti.com/lit/ds/symlink/tms470r1vc338.pdf
footprint PZ100_N (Thin QFP, 100-Leads, Body 14x14mm, Pitch 0.5mm, IPC Medium Density)
footprint PZ100_L (Thin QFP, 100-Leads, Body 14x14mm, Pitch 0.5mm, IPC High Density)
footprint PZ100_M (Thin QFP, 100-Leads, Body 14x14mm, Pitch 0.5mm, IPC Low Density)
part A pins: 22 GIOA[7]/INT7 (io), 23 GIOA[6]/INT6 (io), 24 GIOA[5]/INT5 (io), 25 GIOA[4]/INT4 (io), 28 GIOA[0]/INT0 (in), 29 GIOA[1]/INT1/ECLK (io)
part B pins: 13 HET[17] (io), 14 HET[16] (io), 15 HET[15] (io), 16 HET[14] (io), 17 HET[13] (io), 18 HET[12] (io), 19 HET[11] (io), 20 HET[10] (io), 32 HET[29] (io), 33 HET[30] (io), 34 HET[31] (io), 35 HET[24] (io), 45 HET[22] (io), 46 HET[21] (io), 47 HET[20] (io), 48 HET[19] (io), 49 HET[18] (io), 55 HET[8] (io), 56 HET[9] (io), 68 ADIN[7] (in), 69 ADIN[6] (in), 70 ADIN[5] (in), 71 ADIN[4] (in), 72 ADIN[3] (in), 73 ADIN[2] (in), 74 ADIN[1] (in), 75 ADIN[0] (in), 76 ADIN[11] (in), 77 ADIN[10] (in), 78 ADIN[9] (in), 79 ADIN[8] (in), 88 HET[0] (io), 89 HET[1] (io), 95 HET[2] (io), 96 HET[3] (io), 97 HET[4] (io), 98 HET[5] (io), 99 HET[6] (io), 100 HET[7] (io)
part C pins: 1 ~{SPI1ENA} (io), 2 ~{SPI1SCS} (io), 3 SPI1SIMO (io), 4 SPI1SOMI (io), 5 SPI1CLK (io), 7 OSCOUT (out), 8 OSCIN (in), 10 ~{RST} (io), 21 ~{PORRST} (in), 27 TEST (in), 30 SCI2RX (io), 31 SCI2TX (io), 36 C2SIbLPN (io), 37 C2SIbTX (io), 38 C2SIbRX (io), 41 SPI2CLK (io), 42 SPI2SIMO (io), 43 SPI2SOMI (io), 44 ~{SPI2ENA} (io), 50 AWD (io), 51 PLLDIS (in), 59 CLKOUT (io), 60 CANSRX (io), 61 CANSTX (io), 62 SCI1CLK (io), 63 SCI1TX (io), 64 SCI1RX (io), 67 ADEVT (io), 80 ADREFHI (in), 81 ADREFLO (in)
part D pins: 26 ~{TRST} (in), 52 TDI (in), 53 TDO (out), 54 TCK (in), 84 TMS (in), 85 TMS2 (in)
part E pins: 6 VSS (power), 9 VCC (power), 11 VSSIO (power), 12 VCCIO (power), 39 VSS (power), 40 VCC (power), 57 VSSIO (power), 58 VCCIO (power), 65 VSS (power), 66 VCC (power), 82 VCCAD (power), 83 VSSAD (power), 86 VSS (power), 87 VCC (power), 90 VSS (power), 91 VCC (power)
part F pins: 92 NC, 93 NC, 94 NC

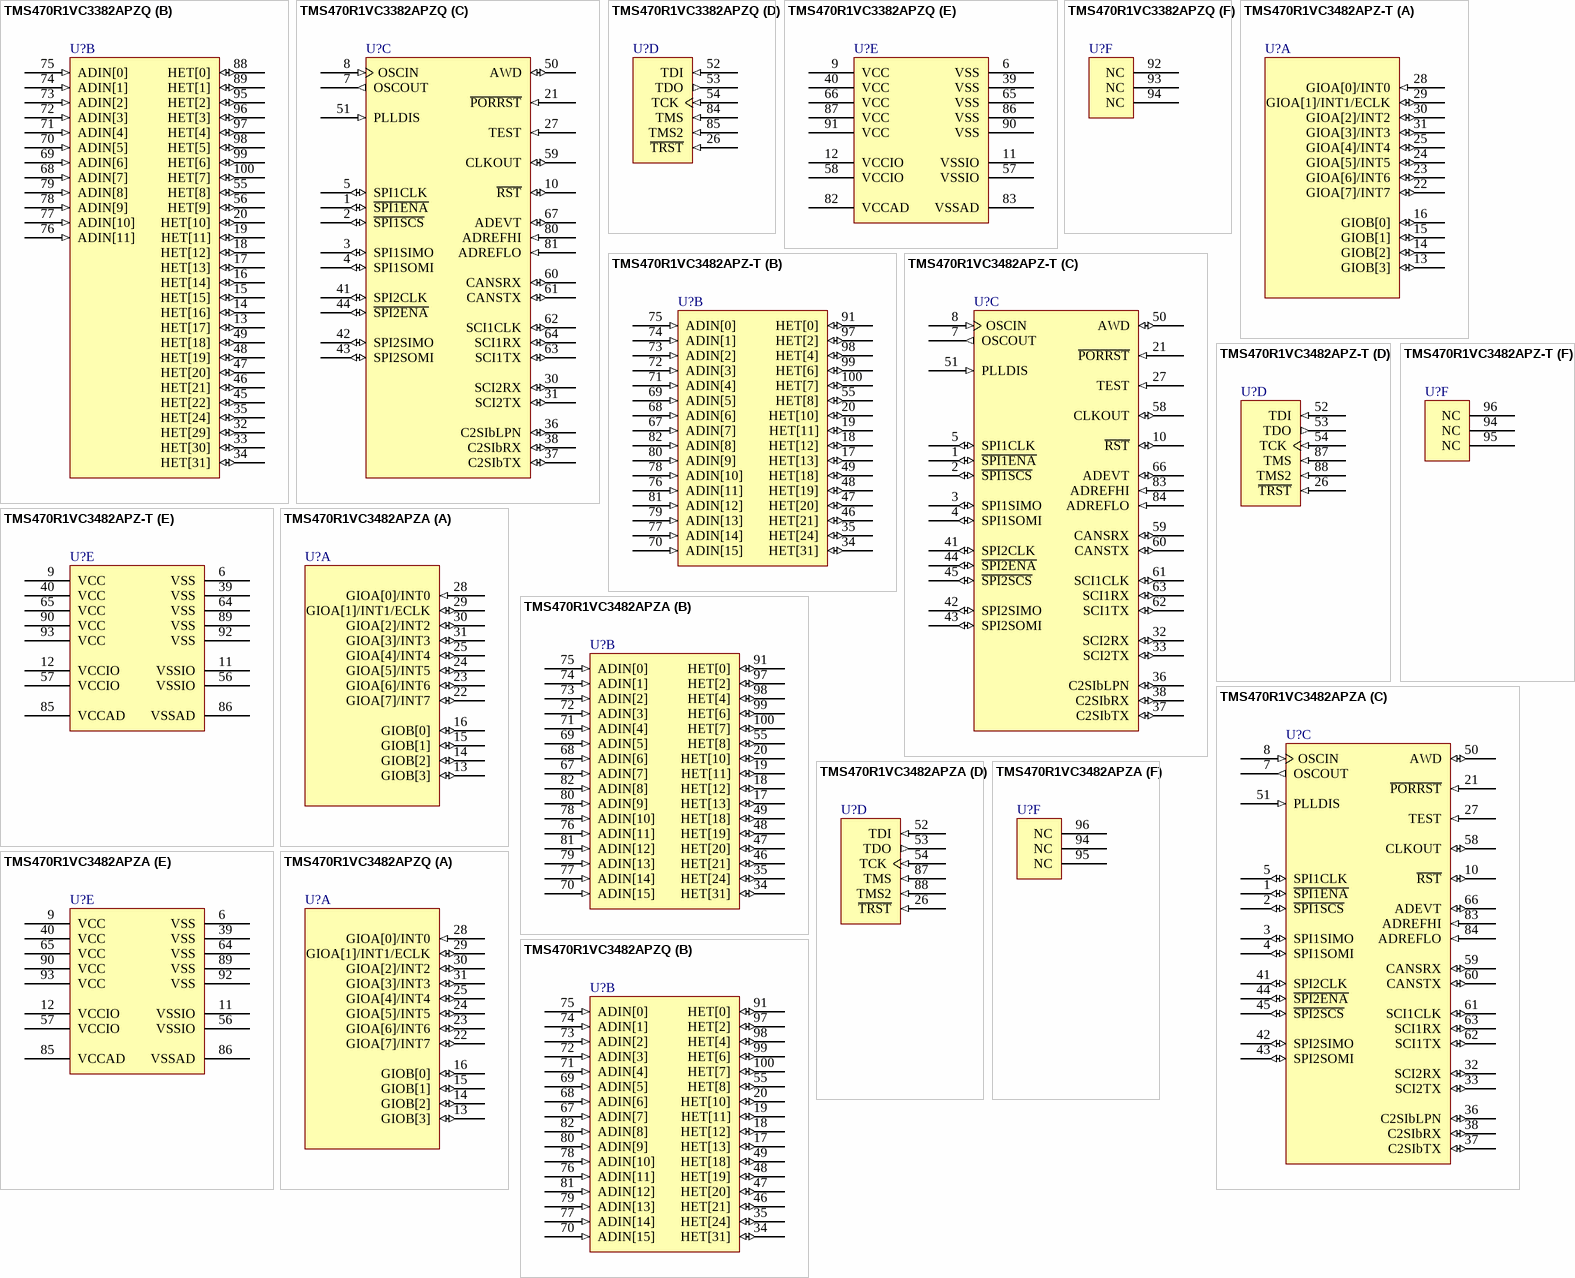
[diagram p19: symbols TMS470R1VC3382APZQ to TMS470R1VC3482APZQ]

## TMS470R1VC3382APZQ
designator U?
ARM7TDMI 16/32-Bit RISC Automotive MCU, 256KB ROM, 12KB RAM, 100-pin LQFP, -40ºC to 125ºC; Note: The HET[28] signal is only connected to the pad, not to a package pin.; Published: 30-Mar-2007; DatasheetVersion: Jan-2006; PackageVersion: Dec-1996; PackageReference: PZ100; Publisher: Altium Limited; PackageDescription: 100-Pin Thin Quad Flat Pack 0.5 mm Pitch; ComponentLink1Description: Manufacturer Link; ComponentLink1URL: http://www.ti.com/; ComponentLink2Description: Datasheet; ComponentLink2URL: http://focus.ti.com/lit/ds/symlink/tms470r1vc338.pdf
footprint PZ100_N (Thin QFP, 100-Leads, Body 14x14mm, Pitch 0.5mm, IPC Medium Density)
footprint PZ100_L (Thin QFP, 100-Leads, Body 14x14mm, Pitch 0.5mm, IPC High Density)
footprint PZ100_M (Thin QFP, 100-Leads, Body 14x14mm, Pitch 0.5mm, IPC Low Density)
part A pins: 22 GIOA[7]/INT7 (io), 23 GIOA[6]/INT6 (io), 24 GIOA[5]/INT5 (io), 25 GIOA[4]/INT4 (io), 28 GIOA[0]/INT0 (in), 29 GIOA[1]/INT1/ECLK (io)
part B pins: 13 HET[17] (io), 14 HET[16] (io), 15 HET[15] (io), 16 HET[14] (io), 17 HET[13] (io), 18 HET[12] (io), 19 HET[11] (io), 20 HET[10] (io), 32 HET[29] (io), 33 HET[30] (io), 34 HET[31] (io), 35 HET[24] (io), 45 HET[22] (io), 46 HET[21] (io), 47 HET[20] (io), 48 HET[19] (io), 49 HET[18] (io), 55 HET[8] (io), 56 HET[9] (io), 68 ADIN[7] (in), 69 ADIN[6] (in), 70 ADIN[5] (in), 71 ADIN[4] (in), 72 ADIN[3] (in), 73 ADIN[2] (in), 74 ADIN[1] (in), 75 ADIN[0] (in), 76 ADIN[11] (in), 77 ADIN[10] (in), 78 ADIN[9] (in), 79 ADIN[8] (in), 88 HET[0] (io), 89 HET[1] (io), 95 HET[2] (io), 96 HET[3] (io), 97 HET[4] (io), 98 HET[5] (io), 99 HET[6] (io), 100 HET[7] (io)
part C pins: 1 ~{SPI1ENA} (io), 2 ~{SPI1SCS} (io), 3 SPI1SIMO (io), 4 SPI1SOMI (io), 5 SPI1CLK (io), 7 OSCOUT (out), 8 OSCIN (in), 10 ~{RST} (io), 21 ~{PORRST} (in), 27 TEST (in), 30 SCI2RX (io), 31 SCI2TX (io), 36 C2SIbLPN (io), 37 C2SIbTX (io), 38 C2SIbRX (io), 41 SPI2CLK (io), 42 SPI2SIMO (io), 43 SPI2SOMI (io), 44 ~{SPI2ENA} (io), 50 AWD (io), 51 PLLDIS (in), 59 CLKOUT (io), 60 CANSRX (io), 61 CANSTX (io), 62 SCI1CLK (io), 63 SCI1TX (io), 64 SCI1RX (io), 67 ADEVT (io), 80 ADREFHI (in), 81 ADREFLO (in)
part D pins: 26 ~{TRST} (in), 52 TDI (in), 53 TDO (out), 54 TCK (in), 84 TMS (in), 85 TMS2 (in)
part E pins: 6 VSS (power), 9 VCC (power), 11 VSSIO (power), 12 VCCIO (power), 39 VSS (power), 40 VCC (power), 57 VSSIO (power), 58 VCCIO (power), 65 VSS (power), 66 VCC (power), 82 VCCAD (power), 83 VSSAD (power), 86 VSS (power), 87 VCC (power), 90 VSS (power), 91 VCC (power)
part F pins: 92 NC, 93 NC, 94 NC

## TMS470R1VC3482APZ-T
designator U?
ARM7TDMI 16/32-Bit RISC Automotive MCU, 256KB ROM, 12KB RAM, 100-pin LQFP, -40ºC to 105ºC; Published: 30-Mar-2007; DatasheetVersion: Jan-2006; PackageVersion: Dec-1996; PackageReference: PZ100; Publisher: Altium Limited; PackageDescription: 100-Pin Thin Quad Flat Pack 0.5 mm Pitch; ComponentLink1Description: Manufacturer Link; ComponentLink1URL: http://www.ti.com/; ComponentLink2Description: Datasheet; ComponentLink2URL: http://focus.ti.com/lit/ds/symlink/tms470r1vc338.pdf
footprint PZ100_N (Thin QFP, 100-Leads, Body 14x14mm, Pitch 0.5mm, IPC Medium Density)
footprint PZ100_L (Thin QFP, 100-Leads, Body 14x14mm, Pitch 0.5mm, IPC High Density)
footprint PZ100_M (Thin QFP, 100-Leads, Body 14x14mm, Pitch 0.5mm, IPC Low Density)
part A pins: 13 GIOB[3] (io), 14 GIOB[2] (io), 15 GIOB[1] (io), 16 GIOB[0] (io), 22 GIOA[7]/INT7 (io), 23 GIOA[6]/INT6 (io), 24 GIOA[5]/INT5 (io), 25 GIOA[4]/INT4 (io), 28 GIOA[0]/INT0 (in), 29 GIOA[1]/INT1/ECLK (io), 30 GIOA[2]/INT2 (io), 31 GIOA[3]/INT3 (io)
part B pins: 17 HET[13] (io), 18 HET[12] (io), 19 HET[11] (io), 20 HET[10] (io), 34 HET[31] (io), 35 HET[24] (io), 46 HET[21] (io), 47 HET[20] (io), 48 HET[19] (io), 49 HET[18] (io), 55 HET[8] (io), 67 ADIN[7] (in), 68 ADIN[6] (in), 69 ADIN[5] (in), 70 ADIN[15] (in), 71 ADIN[4] (in), 72 ADIN[3] (in), 73 ADIN[2] (in), 74 ADIN[1] (in), 75 ADIN[0] (in), 76 ADIN[11] (in), 77 ADIN[14] (in), 78 ADIN[10] (in), 79 ADIN[13] (in), 80 ADIN[9] (in), 81 ADIN[12] (in), 82 ADIN[8] (in), 91 HET[0] (io), 97 HET[2] (io), 98 HET[4] (io), 99 HET[6] (io), 100 HET[7] (io)
part C pins: 1 ~{SPI1ENA} (io), 2 ~{SPI1SCS} (io), 3 SPI1SIMO (io), 4 SPI1SOMI (io), 5 SPI1CLK (io), 7 OSCOUT (out), 8 OSCIN (in), 10 ~{RST} (io), 21 ~{PORRST} (in), 27 TEST (in), 32 SCI2RX (io), 33 SCI2TX (io), 36 C2SIbLPN (io), 37 C2SIbTX (io), 38 C2SIbRX (io), 41 SPI2CLK (io), 42 SPI2SIMO (io), 43 SPI2SOMI (io), 44 ~{SPI2ENA} (io), 45 ~{SPI2SCS} (io), 50 AWD (io), 51 PLLDIS (in), 58 CLKOUT (io), 59 CANSRX (io), 60 CANSTX (io), 61 SCI1CLK (io), 62 SCI1TX (io), 63 SCI1RX (io), 66 ADEVT (io), 83 ADREFHI (in), 84 ADREFLO (in)
part D pins: 26 ~{TRST} (in), 52 TDI (in), 53 TDO (out), 54 TCK (in), 87 TMS (in), 88 TMS2 (in)
part E pins: 6 VSS (power), 9 VCC (power), 11 VSSIO (power), 12 VCCIO (power), 39 VSS (power), 40 VCC (power), 56 VSSIO (power), 57 VCCIO (power), 64 VSS (power), 65 VCC (power), 85 VCCAD (power), 86 VSSAD (power), 89 VSS (power), 90 VCC (power), 92 VSS (power), 93 VCC (power)
part F pins: 94 NC, 95 NC, 96 NC

## TMS470R1VC3482APZA
designator U?
ARM7TDMI 16/32-Bit RISC Automotive MCU, 256KB ROM, 12KB RAM, 100-pin LQFP, -40ºC to 85ºC; Published: 30-Mar-2007; DatasheetVersion: Jan-2006; PackageVersion: Dec-1996; PackageReference: PZ100; Publisher: Altium Limited; PackageDescription: 100-Pin Thin Quad Flat Pack 0.5 mm Pitch; ComponentLink1Description: Manufacturer Link; ComponentLink1URL: http://www.ti.com/; ComponentLink2Description: Datasheet; ComponentLink2URL: http://focus.ti.com/lit/ds/symlink/tms470r1vc338.pdf
footprint PZ100_N (Thin QFP, 100-Leads, Body 14x14mm, Pitch 0.5mm, IPC Medium Density)
footprint PZ100_L (Thin QFP, 100-Leads, Body 14x14mm, Pitch 0.5mm, IPC High Density)
footprint PZ100_M (Thin QFP, 100-Leads, Body 14x14mm, Pitch 0.5mm, IPC Low Density)
part A pins: 13 GIOB[3] (io), 14 GIOB[2] (io), 15 GIOB[1] (io), 16 GIOB[0] (io), 22 GIOA[7]/INT7 (io), 23 GIOA[6]/INT6 (io), 24 GIOA[5]/INT5 (io), 25 GIOA[4]/INT4 (io), 28 GIOA[0]/INT0 (in), 29 GIOA[1]/INT1/ECLK (io), 30 GIOA[2]/INT2 (io), 31 GIOA[3]/INT3 (io)
part B pins: 17 HET[13] (io), 18 HET[12] (io), 19 HET[11] (io), 20 HET[10] (io), 34 HET[31] (io), 35 HET[24] (io), 46 HET[21] (io), 47 HET[20] (io), 48 HET[19] (io), 49 HET[18] (io), 55 HET[8] (io), 67 ADIN[7] (in), 68 ADIN[6] (in), 69 ADIN[5] (in), 70 ADIN[15] (in), 71 ADIN[4] (in), 72 ADIN[3] (in), 73 ADIN[2] (in), 74 ADIN[1] (in), 75 ADIN[0] (in), 76 ADIN[11] (in), 77 ADIN[14] (in), 78 ADIN[10] (in), 79 ADIN[13] (in), 80 ADIN[9] (in), 81 ADIN[12] (in), 82 ADIN[8] (in), 91 HET[0] (io), 97 HET[2] (io), 98 HET[4] (io), 99 HET[6] (io), 100 HET[7] (io)
part C pins: 1 ~{SPI1ENA} (io), 2 ~{SPI1SCS} (io), 3 SPI1SIMO (io), 4 SPI1SOMI (io), 5 SPI1CLK (io), 7 OSCOUT (out), 8 OSCIN (in), 10 ~{RST} (io), 21 ~{PORRST} (in), 27 TEST (in), 32 SCI2RX (io), 33 SCI2TX (io), 36 C2SIbLPN (io), 37 C2SIbTX (io), 38 C2SIbRX (io), 41 SPI2CLK (io), 42 SPI2SIMO (io), 43 SPI2SOMI (io), 44 ~{SPI2ENA} (io), 45 ~{SPI2SCS} (io), 50 AWD (io), 51 PLLDIS (in), 58 CLKOUT (io), 59 CANSRX (io), 60 CANSTX (io), 61 SCI1CLK (io), 62 SCI1TX (io), 63 SCI1RX (io), 66 ADEVT (io), 83 ADREFHI (in), 84 ADREFLO (in)
part D pins: 26 ~{TRST} (in), 52 TDI (in), 53 TDO (out), 54 TCK (in), 87 TMS (in), 88 TMS2 (in)
part E pins: 6 VSS (power), 9 VCC (power), 11 VSSIO (power), 12 VCCIO (power), 39 VSS (power), 40 VCC (power), 56 VSSIO (power), 57 VCCIO (power), 64 VSS (power), 65 VCC (power), 85 VCCAD (power), 86 VSSAD (power), 89 VSS (power), 90 VCC (power), 92 VSS (power), 93 VCC (power)
part F pins: 94 NC, 95 NC, 96 NC

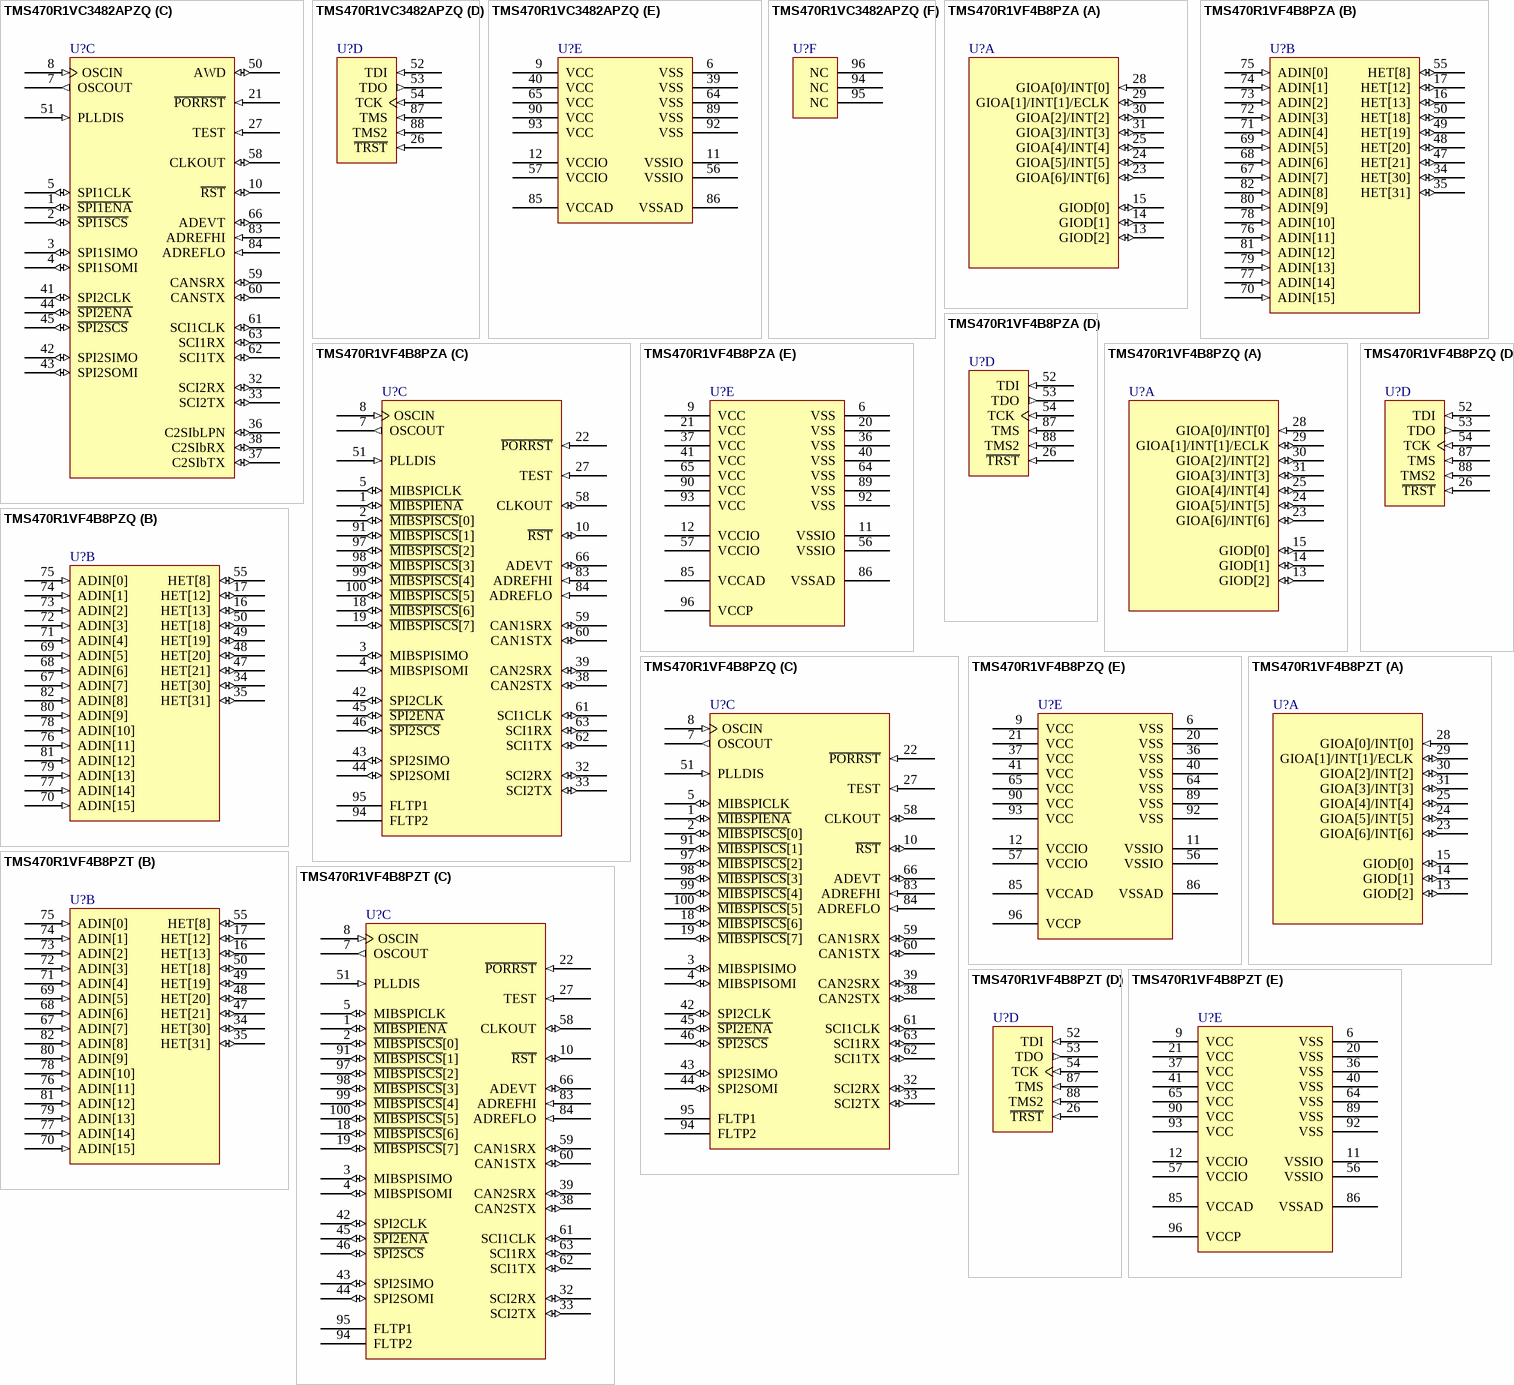
[diagram p20: symbols TMS470R1VC3482APZQ to TMS470R1VF4B8PZT]

## TMS470R1VC3482APZQ
designator U?
ARM7TDMI 16/32-Bit RISC Automotive MCU, 256KB ROM, 12KB RAM, 100-pin LQFP, -40ºC to 125ºC; Published: 30-Mar-2007; DatasheetVersion: Jan-2006; PackageVersion: Dec-1996; PackageReference: PZ100; Publisher: Altium Limited; PackageDescription: 100-Pin Thin Quad Flat Pack 0.5 mm Pitch; ComponentLink1Description: Manufacturer Link; ComponentLink1URL: http://www.ti.com/; ComponentLink2Description: Datasheet; ComponentLink2URL: http://focus.ti.com/lit/ds/symlink/tms470r1vc338.pdf
footprint PZ100_N (Thin QFP, 100-Leads, Body 14x14mm, Pitch 0.5mm, IPC Medium Density)
footprint PZ100_L (Thin QFP, 100-Leads, Body 14x14mm, Pitch 0.5mm, IPC High Density)
footprint PZ100_M (Thin QFP, 100-Leads, Body 14x14mm, Pitch 0.5mm, IPC Low Density)
part A pins: 13 GIOB[3] (io), 14 GIOB[2] (io), 15 GIOB[1] (io), 16 GIOB[0] (io), 22 GIOA[7]/INT7 (io), 23 GIOA[6]/INT6 (io), 24 GIOA[5]/INT5 (io), 25 GIOA[4]/INT4 (io), 28 GIOA[0]/INT0 (in), 29 GIOA[1]/INT1/ECLK (io), 30 GIOA[2]/INT2 (io), 31 GIOA[3]/INT3 (io)
part B pins: 17 HET[13] (io), 18 HET[12] (io), 19 HET[11] (io), 20 HET[10] (io), 34 HET[31] (io), 35 HET[24] (io), 46 HET[21] (io), 47 HET[20] (io), 48 HET[19] (io), 49 HET[18] (io), 55 HET[8] (io), 67 ADIN[7] (in), 68 ADIN[6] (in), 69 ADIN[5] (in), 70 ADIN[15] (in), 71 ADIN[4] (in), 72 ADIN[3] (in), 73 ADIN[2] (in), 74 ADIN[1] (in), 75 ADIN[0] (in), 76 ADIN[11] (in), 77 ADIN[14] (in), 78 ADIN[10] (in), 79 ADIN[13] (in), 80 ADIN[9] (in), 81 ADIN[12] (in), 82 ADIN[8] (in), 91 HET[0] (io), 97 HET[2] (io), 98 HET[4] (io), 99 HET[6] (io), 100 HET[7] (io)
part C pins: 1 ~{SPI1ENA} (io), 2 ~{SPI1SCS} (io), 3 SPI1SIMO (io), 4 SPI1SOMI (io), 5 SPI1CLK (io), 7 OSCOUT (out), 8 OSCIN (in), 10 ~{RST} (io), 21 ~{PORRST} (in), 27 TEST (in), 32 SCI2RX (io), 33 SCI2TX (io), 36 C2SIbLPN (io), 37 C2SIbTX (io), 38 C2SIbRX (io), 41 SPI2CLK (io), 42 SPI2SIMO (io), 43 SPI2SOMI (io), 44 ~{SPI2ENA} (io), 45 ~{SPI2SCS} (io), 50 AWD (io), 51 PLLDIS (in), 58 CLKOUT (io), 59 CANSRX (io), 60 CANSTX (io), 61 SCI1CLK (io), 62 SCI1TX (io), 63 SCI1RX (io), 66 ADEVT (io), 83 ADREFHI (in), 84 ADREFLO (in)
part D pins: 26 ~{TRST} (in), 52 TDI (in), 53 TDO (out), 54 TCK (in), 87 TMS (in), 88 TMS2 (in)
part E pins: 6 VSS (power), 9 VCC (power), 11 VSSIO (power), 12 VCCIO (power), 39 VSS (power), 40 VCC (power), 56 VSSIO (power), 57 VCCIO (power), 64 VSS (power), 65 VCC (power), 85 VCCAD (power), 86 VSSAD (power), 89 VSS (power), 90 VCC (power), 92 VSS (power), 93 VCC (power)
part F pins: 94 NC, 95 NC, 96 NC

## TMS470R1VF4B8PZA
designator U?
ARM7TDMI 16/32-Bit RISC Automotive MCU, 256KB Flash, 16KB RAM, 100-pin LQFP, -40ºC to 85ºC; Published: 30-Mar-2007; DatasheetVersion: Aug-2006; PackageVersion: Dec-1996; PackageReference: PZ100; Publisher: Altium Limited; PackageDescription: 100-Pin Thin Quad Flat Pack 0.5 mm Pitch; ComponentLink1Description: Manufacturer Link; ComponentLink1URL: http://www.ti.com/; ComponentLink2Description: Datasheet; ComponentLink2URL: http://focus.ti.com/lit/ds/symlink/tms470r1vf4b8.pdf
footprint PZ100_N (Thin QFP, 100-Leads, Body 14x14mm, Pitch 0.5mm, IPC Medium Density)
footprint PZ100_L (Thin QFP, 100-Leads, Body 14x14mm, Pitch 0.5mm, IPC High Density)
footprint PZ100_M (Thin QFP, 100-Leads, Body 14x14mm, Pitch 0.5mm, IPC Low Density)
part A pins: 13 GIOD[2] (io), 14 GIOD[1] (io), 15 GIOD[0] (io), 23 GIOA[6]/INT[6] (io), 24 GIOA[5]/INT[5] (io), 25 GIOA[4]/INT[4] (io), 28 GIOA[0]/INT[0] (in), 29 GIOA[1]/INT[1]/ECLK (io), 30 GIOA[2]/INT[2] (io), 31 GIOA[3]/INT[3] (io)
part B pins: 16 HET[13] (io), 17 HET[12] (io), 34 HET[30] (io), 35 HET[31] (io), 47 HET[21] (io), 48 HET[20] (io), 49 HET[19] (io), 50 HET[18] (io), 55 HET[8] (io), 67 ADIN[7] (in), 68 ADIN[6] (in), 69 ADIN[5] (in), 70 ADIN[15] (in), 71 ADIN[4] (in), 72 ADIN[3] (in), 73 ADIN[2] (in), 74 ADIN[1] (in), 75 ADIN[0] (in), 76 ADIN[11] (in), 77 ADIN[14] (in), 78 ADIN[10] (in), 79 ADIN[13] (in), 80 ADIN[9] (in), 81 ADIN[12] (in), 82 ADIN[8] (in)
part C pins: 1 ~{MIBSPIENA} (io), 2 ~{MIBSPISCS}[0] (io), 3 MIBSPISIMO (io), 4 MIBSPISOMI (io), 5 MIBSPICLK (io), 7 OSCOUT (out), 8 OSCIN (in), 10 ~{RST} (io), 18 ~{MIBSPISCS}[6] (io), 19 ~{MIBSPISCS}[7] (io), 22 ~{PORRST} (in), 27 TEST (in), 32 SCI2RX (io), 33 SCI2TX (io), 38 CAN2STX (io), 39 CAN2SRX (io), 42 SPI2CLK (io), 43 SPI2SIMO (io), 44 SPI2SOMI (io), 45 ~{SPI2ENA} (io), 46 ~{SPI2SCS} (io), 51 PLLDIS (in), 58 CLKOUT (io), 59 CAN1SRX (io), 60 CAN1STX (io), 61 SCI1CLK (io), 62 SCI1TX (io), 63 SCI1RX (io), 66 ADEVT (io), 83 ADREFHI (in), 84 ADREFLO (in), 91 ~{MIBSPISCS}[1] (io), 94 FLTP2, 95 FLTP1, 97 ~{MIBSPISCS}[2] (io), 98 ~{MIBSPISCS}[3] (io), 99 ~{MIBSPISCS}[4] (io), 100 ~{MIBSPISCS}[5] (io)
part D pins: 26 ~{TRST} (in), 52 TDI (in), 53 TDO (out), 54 TCK (in), 87 TMS (in), 88 TMS2 (in)
part E pins: 6 VSS (power), 9 VCC (power), 11 VSSIO (power), 12 VCCIO (power), 20 VSS (power), 21 VCC (power), 36 VSS (power), 37 VCC (power), 40 VSS (power), 41 VCC (power), 56 VSSIO (power), 57 VCCIO (power), 64 VSS (power), 65 VCC (power), 85 VCCAD (power), 86 VSSAD (power), 89 VSS (power), 90 VCC (power), 92 VSS (power), 93 VCC (power), 96 VCCP (power)

## TMS470R1VF4B8PZQ
designator U?
ARM7TDMI 16/32-Bit RISC Automotive MCU, 256KB Flash, 16KB RAM, 100-pin LQFP, -40ºC to 125ºC; Published: 30-Mar-2007; DatasheetVersion: Aug-2006; PackageVersion: Dec-1996; PackageReference: PZ100; Publisher: Altium Limited; PackageDescription: 100-Pin Thin Quad Flat Pack 0.5 mm Pitch; ComponentLink1Description: Manufacturer Link; ComponentLink1URL: http://www.ti.com/; ComponentLink2Description: Datasheet; ComponentLink2URL: http://focus.ti.com/lit/ds/symlink/tms470r1vf4b8.pdf
footprint PZ100_N (Thin QFP, 100-Leads, Body 14x14mm, Pitch 0.5mm, IPC Medium Density)
footprint PZ100_L (Thin QFP, 100-Leads, Body 14x14mm, Pitch 0.5mm, IPC High Density)
footprint PZ100_M (Thin QFP, 100-Leads, Body 14x14mm, Pitch 0.5mm, IPC Low Density)
part A pins: 13 GIOD[2] (io), 14 GIOD[1] (io), 15 GIOD[0] (io), 23 GIOA[6]/INT[6] (io), 24 GIOA[5]/INT[5] (io), 25 GIOA[4]/INT[4] (io), 28 GIOA[0]/INT[0] (in), 29 GIOA[1]/INT[1]/ECLK (io), 30 GIOA[2]/INT[2] (io), 31 GIOA[3]/INT[3] (io)
part B pins: 16 HET[13] (io), 17 HET[12] (io), 34 HET[30] (io), 35 HET[31] (io), 47 HET[21] (io), 48 HET[20] (io), 49 HET[19] (io), 50 HET[18] (io), 55 HET[8] (io), 67 ADIN[7] (in), 68 ADIN[6] (in), 69 ADIN[5] (in), 70 ADIN[15] (in), 71 ADIN[4] (in), 72 ADIN[3] (in), 73 ADIN[2] (in), 74 ADIN[1] (in), 75 ADIN[0] (in), 76 ADIN[11] (in), 77 ADIN[14] (in), 78 ADIN[10] (in), 79 ADIN[13] (in), 80 ADIN[9] (in), 81 ADIN[12] (in), 82 ADIN[8] (in)
part C pins: 1 ~{MIBSPIENA} (io), 2 ~{MIBSPISCS}[0] (io), 3 MIBSPISIMO (io), 4 MIBSPISOMI (io), 5 MIBSPICLK (io), 7 OSCOUT (out), 8 OSCIN (in), 10 ~{RST} (io), 18 ~{MIBSPISCS}[6] (io), 19 ~{MIBSPISCS}[7] (io), 22 ~{PORRST} (in), 27 TEST (in), 32 SCI2RX (io), 33 SCI2TX (io), 38 CAN2STX (io), 39 CAN2SRX (io), 42 SPI2CLK (io), 43 SPI2SIMO (io), 44 SPI2SOMI (io), 45 ~{SPI2ENA} (io), 46 ~{SPI2SCS} (io), 51 PLLDIS (in), 58 CLKOUT (io), 59 CAN1SRX (io), 60 CAN1STX (io), 61 SCI1CLK (io), 62 SCI1TX (io), 63 SCI1RX (io), 66 ADEVT (io), 83 ADREFHI (in), 84 ADREFLO (in), 91 ~{MIBSPISCS}[1] (io), 94 FLTP2, 95 FLTP1, 97 ~{MIBSPISCS}[2] (io), 98 ~{MIBSPISCS}[3] (io), 99 ~{MIBSPISCS}[4] (io), 100 ~{MIBSPISCS}[5] (io)
part D pins: 26 ~{TRST} (in), 52 TDI (in), 53 TDO (out), 54 TCK (in), 87 TMS (in), 88 TMS2 (in)
part E pins: 6 VSS (power), 9 VCC (power), 11 VSSIO (power), 12 VCCIO (power), 20 VSS (power), 21 VCC (power), 36 VSS (power), 37 VCC (power), 40 VSS (power), 41 VCC (power), 56 VSSIO (power), 57 VCCIO (power), 64 VSS (power), 65 VCC (power), 85 VCCAD (power), 86 VSSAD (power), 89 VSS (power), 90 VCC (power), 92 VSS (power), 93 VCC (power), 96 VCCP (power)

## TMS470R1VF4B8PZT
designator U?
ARM7TDMI 16/32-Bit RISC Automotive MCU, 256KB Flash, 16KB RAM, 100-pin LQFP, -40ºC to 105ºC; Published: 30-Mar-2007; DatasheetVersion: Aug-2006; PackageVersion: Dec-1996; PackageReference: PZ100; Publisher: Altium Limited; PackageDescription: 100-Pin Thin Quad Flat Pack 0.5 mm Pitch; ComponentLink1Description: Manufacturer Link; ComponentLink1URL: http://www.ti.com/; ComponentLink2Description: Datasheet; ComponentLink2URL: http://focus.ti.com/lit/ds/symlink/tms470r1vf4b8.pdf
footprint PZ100_N (Thin QFP, 100-Leads, Body 14x14mm, Pitch 0.5mm, IPC Medium Density)
footprint PZ100_L (Thin QFP, 100-Leads, Body 14x14mm, Pitch 0.5mm, IPC High Density)
footprint PZ100_M (Thin QFP, 100-Leads, Body 14x14mm, Pitch 0.5mm, IPC Low Density)
part A pins: 13 GIOD[2] (io), 14 GIOD[1] (io), 15 GIOD[0] (io), 23 GIOA[6]/INT[6] (io), 24 GIOA[5]/INT[5] (io), 25 GIOA[4]/INT[4] (io), 28 GIOA[0]/INT[0] (in), 29 GIOA[1]/INT[1]/ECLK (io), 30 GIOA[2]/INT[2] (io), 31 GIOA[3]/INT[3] (io)
part B pins: 16 HET[13] (io), 17 HET[12] (io), 34 HET[30] (io), 35 HET[31] (io), 47 HET[21] (io), 48 HET[20] (io), 49 HET[19] (io), 50 HET[18] (io), 55 HET[8] (io), 67 ADIN[7] (in), 68 ADIN[6] (in), 69 ADIN[5] (in), 70 ADIN[15] (in), 71 ADIN[4] (in), 72 ADIN[3] (in), 73 ADIN[2] (in), 74 ADIN[1] (in), 75 ADIN[0] (in), 76 ADIN[11] (in), 77 ADIN[14] (in), 78 ADIN[10] (in), 79 ADIN[13] (in), 80 ADIN[9] (in), 81 ADIN[12] (in), 82 ADIN[8] (in)
part C pins: 1 ~{MIBSPIENA} (io), 2 ~{MIBSPISCS}[0] (io), 3 MIBSPISIMO (io), 4 MIBSPISOMI (io), 5 MIBSPICLK (io), 7 OSCOUT (out), 8 OSCIN (in), 10 ~{RST} (io), 18 ~{MIBSPISCS}[6] (io), 19 ~{MIBSPISCS}[7] (io), 22 ~{PORRST} (in), 27 TEST (in), 32 SCI2RX (io), 33 SCI2TX (io), 38 CAN2STX (io), 39 CAN2SRX (io), 42 SPI2CLK (io), 43 SPI2SIMO (io), 44 SPI2SOMI (io), 45 ~{SPI2ENA} (io), 46 ~{SPI2SCS} (io), 51 PLLDIS (in), 58 CLKOUT (io), 59 CAN1SRX (io), 60 CAN1STX (io), 61 SCI1CLK (io), 62 SCI1TX (io), 63 SCI1RX (io), 66 ADEVT (io), 83 ADREFHI (in), 84 ADREFLO (in), 91 ~{MIBSPISCS}[1] (io), 94 FLTP2, 95 FLTP1, 97 ~{MIBSPISCS}[2] (io), 98 ~{MIBSPISCS}[3] (io), 99 ~{MIBSPISCS}[4] (io), 100 ~{MIBSPISCS}[5] (io)
part D pins: 26 ~{TRST} (in), 52 TDI (in), 53 TDO (out), 54 TCK (in), 87 TMS (in), 88 TMS2 (in)
part E pins: 6 VSS (power), 9 VCC (power), 11 VSSIO (power), 12 VCCIO (power), 20 VSS (power), 21 VCC (power), 36 VSS (power), 37 VCC (power), 40 VSS (power), 41 VCC (power), 56 VSSIO (power), 57 VCCIO (power), 64 VSS (power), 65 VCC (power), 85 VCCAD (power), 86 VSSAD (power), 89 VSS (power), 90 VCC (power), 92 VSS (power), 93 VCC (power), 96 VCCP (power)

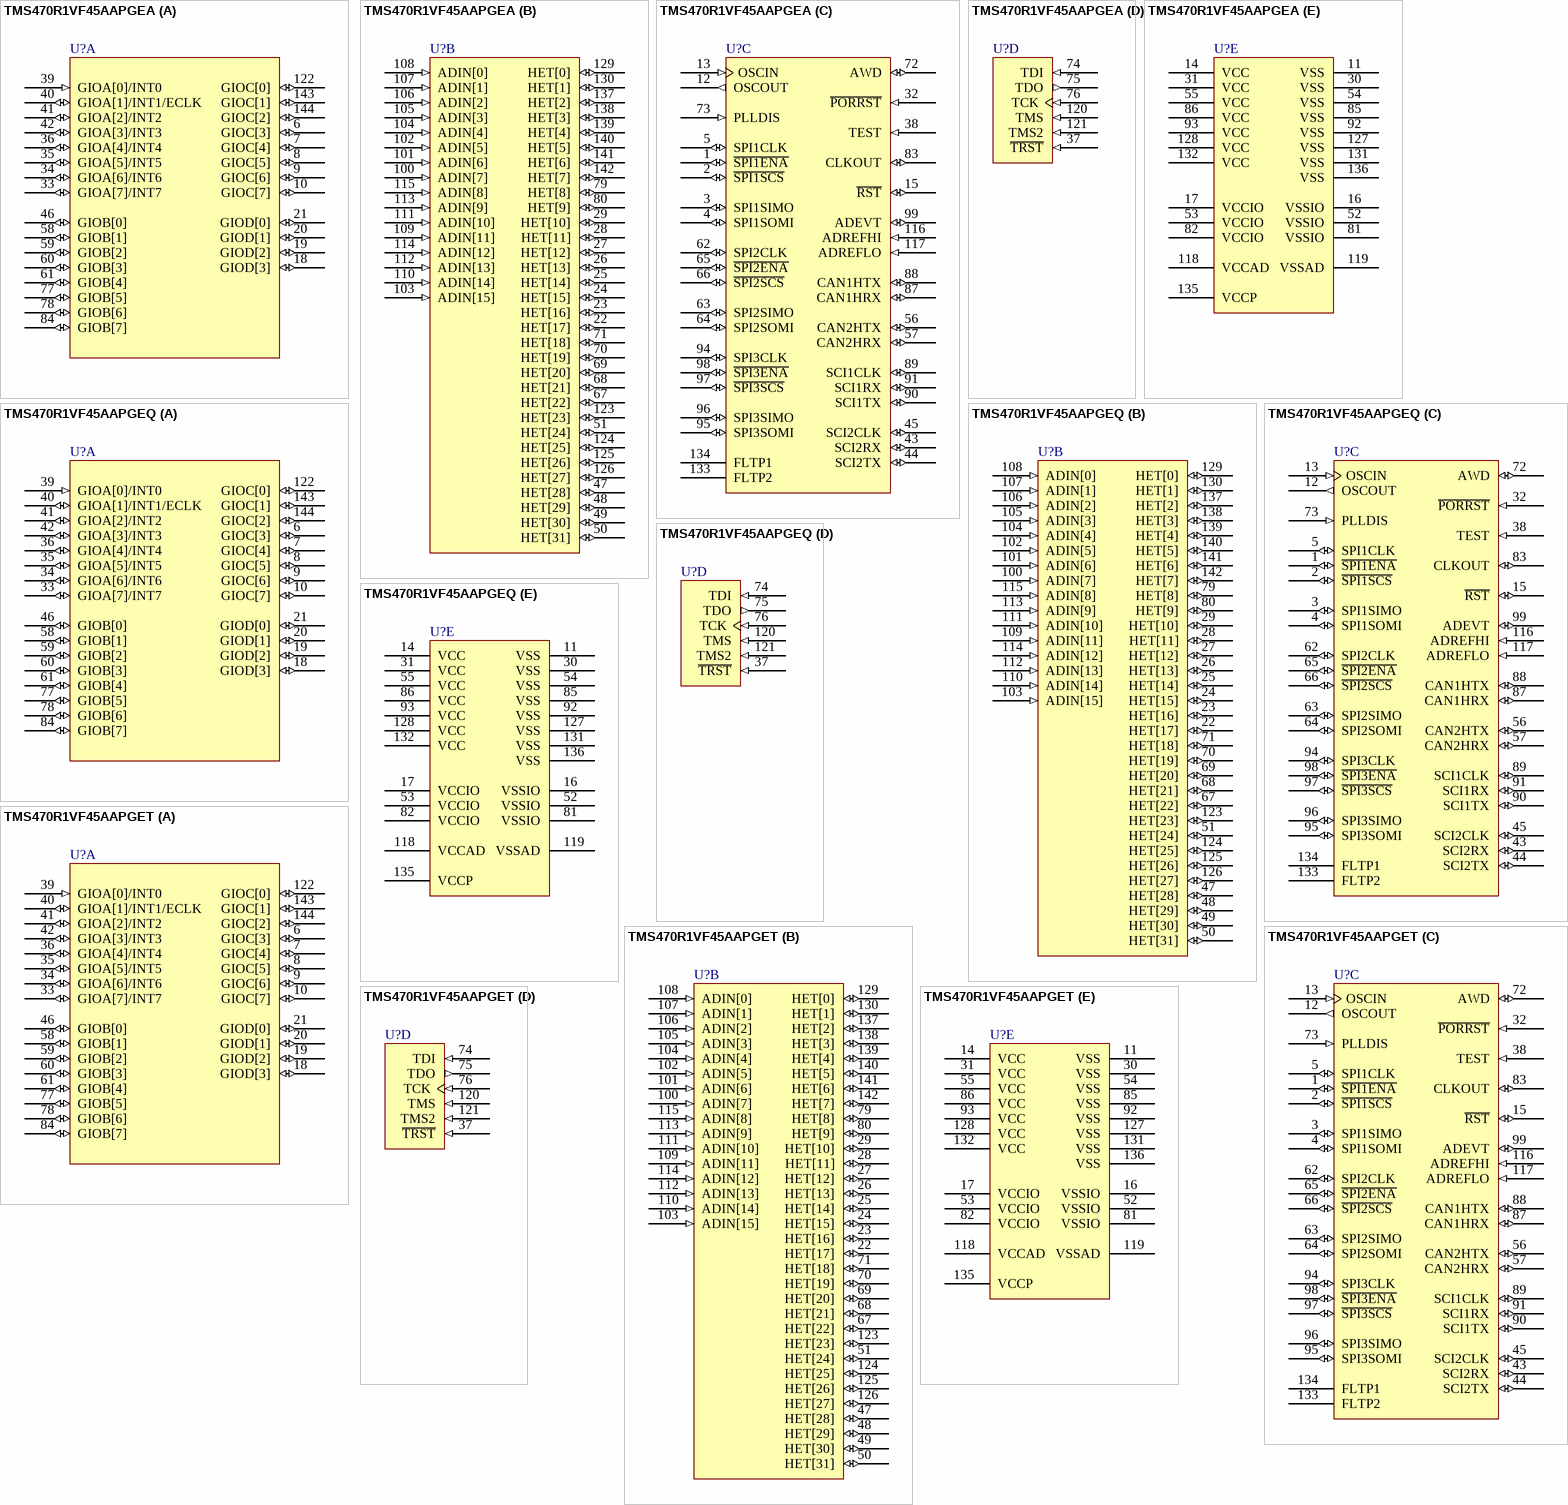
[diagram p21: symbols TMS470R1VF45AAPGEA to TMS470R1VF45AAPGET]

## TMS470R1VF45AAPGEA
designator U?
ARM7TDMI 16/32-Bit RISC Automotive MCU, 512KB Flash, 32KB RAM, 144-pin LQFP, -40ºC to 85ºC; Published: 30-Mar-2007; DatasheetVersion: Nov-2004; PackageVersion: Dec-1996; PackageReference: PGE144; Publisher: Altium Limited; PackageDescription: 144-Pin Thin Quad Flat Pack 0.5 mm Pitch; ComponentLink1Description: Manufacturer Link; ComponentLink1URL: http://www.ti.com/; ComponentLink2Description: Datasheet; ComponentLink2URL: http://focus.ti.com/lit/ds/symlink/tms470r1vf45aa.pdf
footprint PGE144_N (Thin QFP, 144-Leads, Body 20x20mm, Pitch 0.5mm, IPC Medium Density)
footprint PGE144_L (Thin QFP, 144-Leads, Body 20x20mm, Pitch 0.5mm, IPC High Density)
footprint PGE144_M (Thin QFP, 144-Leads, Body 20x20mm, Pitch 0.5mm, IPC Low Density)
part A pins: 6 GIOC[3] (io), 7 GIOC[4] (io), 8 GIOC[5] (io), 9 GIOC[6] (io), 10 GIOC[7] (io), 18 GIOD[3] (io), 19 GIOD[2] (io), 20 GIOD[1] (io), 21 GIOD[0] (io), 33 GIOA[7]/INT7 (io), 34 GIOA[6]/INT6 (io), 35 GIOA[5]/INT5 (io), 36 GIOA[4]/INT4 (io), 39 GIOA[0]/INT0 (in), 40 GIOA[1]/INT1/ECLK (io), 41 GIOA[2]/INT2 (io), 42 GIOA[3]/INT3 (io), 46 GIOB[0] (io), 58 GIOB[1] (io), 59 GIOB[2] (io), 60 GIOB[3] (io), 61 GIOB[4] (io), 77 GIOB[5] (io), 78 GIOB[6] (io), 84 GIOB[7] (io), 122 GIOC[0] (io), 143 GIOC[1] (io), 144 GIOC[2] (io)
part B pins: 22 HET[17] (io), 23 HET[16] (io), 24 HET[15] (io), 25 HET[14] (io), 26 HET[13] (io), 27 HET[12] (io), 28 HET[11] (io), 29 HET[10] (io), 47 HET[28] (io), 48 HET[29] (io), 49 HET[30] (io), 50 HET[31] (io), 51 HET[24] (io), 67 HET[22] (io), 68 HET[21] (io), 69 HET[20] (io), 70 HET[19] (io), 71 HET[18] (io), 79 HET[8] (io), 80 HET[9] (io), 100 ADIN[7] (in), 101 ADIN[6] (in), 102 ADIN[5] (in), 103 ADIN[15] (in), 104 ADIN[4] (in), 105 ADIN[3] (in), 106 ADIN[2] (in), 107 ADIN[1] (in), 108 ADIN[0] (in), 109 ADIN[11] (in), 110 ADIN[14] (in), 111 ADIN[10] (in), 112 ADIN[13] (in), 113 ADIN[9] (in), 114 ADIN[12] (in), 115 ADIN[8] (in), 123 HET[23] (io), 124 HET[25] (io), 125 HET[26] (io), 126 HET[27] (io), 129 HET[0] (io), 130 HET[1] (io), 137 HET[2] (io), 138 HET[3] (io), 139 HET[4] (io), 140 HET[5] (io), 141 HET[6] (io), 142 HET[7] (io)
part C pins: 1 ~{SPI1ENA} (io), 2 ~{SPI1SCS} (io), 3 SPI1SIMO (io), 4 SPI1SOMI (io), 5 SPI1CLK (io), 12 OSCOUT (out), 13 OSCIN (in), 15 ~{RST} (io), 32 ~{PORRST} (in), 38 TEST (in), 43 SCI2RX (io), 44 SCI2TX (io), 45 SCI2CLK (io), 56 CAN2HTX (io), 57 CAN2HRX (io), 62 SPI2CLK (io), 63 SPI2SIMO (io), 64 SPI2SOMI (io), 65 ~{SPI2ENA} (io), 66 ~{SPI2SCS} (io), 72 AWD (io), 73 PLLDIS (in), 83 CLKOUT (io), 87 CAN1HRX (io), 88 CAN1HTX (io), 89 SCI1CLK (io), 90 SCI1TX (io), 91 SCI1RX (io), 94 SPI3CLK (io), 95 SPI3SOMI (io), 96 SPI3SIMO (io), 97 ~{SPI3SCS} (io), 98 ~{SPI3ENA} (io), 99 ADEVT (io), 116 ADREFHI (in), 117 ADREFLO (in), 133 FLTP2, 134 FLTP1
part D pins: 37 ~{TRST} (in), 74 TDI (in), 75 TDO (out), 76 TCK (in), 120 TMS (in), 121 TMS2 (in)
part E pins: 11 VSS (power), 14 VCC (power), 16 VSSIO (power), 17 VCCIO (power), 30 VSS (power), 31 VCC (power), 52 VSSIO (power), 53 VCCIO (power), 54 VSS (power), 55 VCC (power), 81 VSSIO (power), 82 VCCIO (power), 85 VSS (power), 86 VCC (power), 92 VSS (power), 93 VCC (power), 118 VCCAD (power), 119 VSSAD (power), 127 VSS (power), 128 VCC (power), 131 VSS (power), 132 VCC (power), 135 VCCP (power), 136 VSS (power)